# Altium schematic symbol library IC. MCU.SchLib: 20 symbols
Pins are listed as number, name and electrical type; pins without a type are passive.

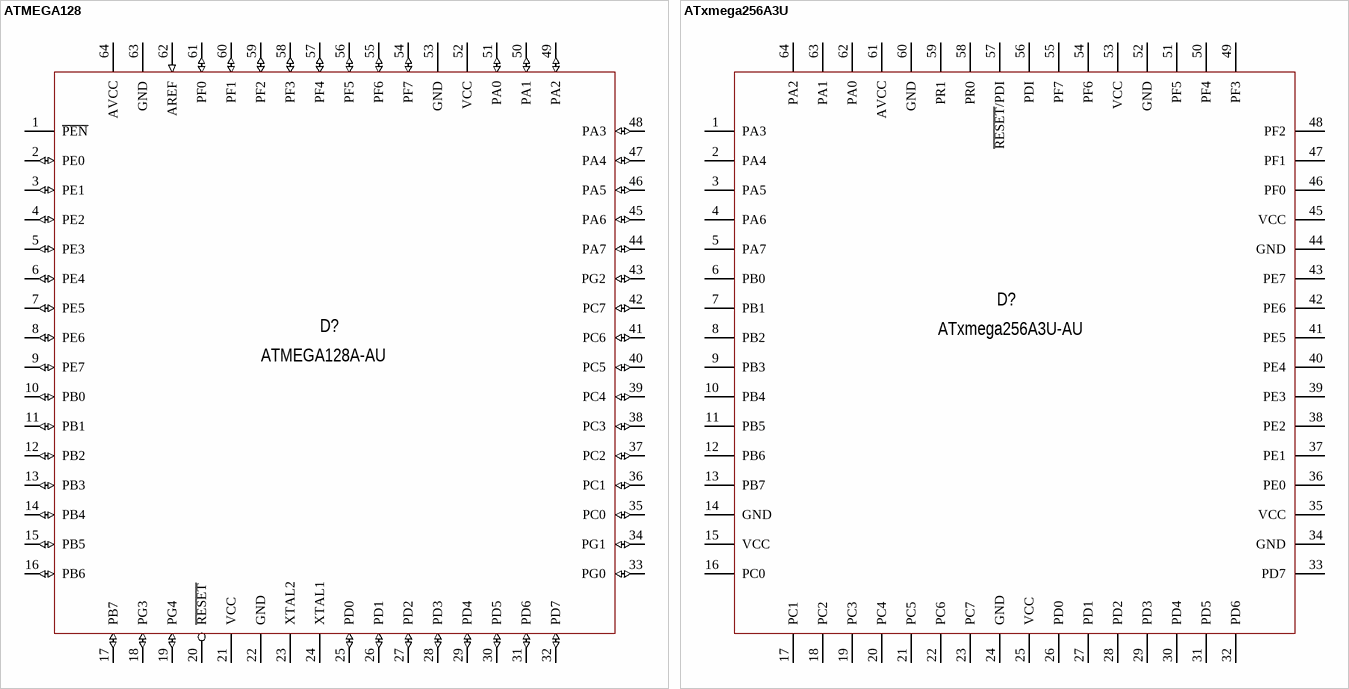
[diagram p0: symbols ATMEGA128 to ATxmega256A3U]

## ATMEGA128
designator D?  PartNumber: ATMEGA128A-AU
ATMEGA; Manufacturer: MICROCHIP; ValueManufacturerPartNumber: IC microcontroller, 8-Bit, RISC, 16MHz, 128KB, 4KB, 4,5...5,5V, -40...+85°C, TQFP64; Supply: 4,5...5,5V; Speed: 16MHz; CoreSize: 8-Bit; MemoryROM: 128KB; MemoryRAM: 4KB; CoreProcessor: RISC; HelpURL: https://www.platan.ru/cgi-bin/qwery.pl/id=324198127; Package: TQFP64; ComponentType: IC microcontroller; Temperature: -40...+85°C
footprint 64-TQFP (pitch 0.8 mm)
pins: 1 ~{PEN}, 2 PE0 (io), 3 PE1 (io), 4 PE2 (io), 5 PE3 (io), 6 PE4 (io), 7 PE5 (io), 8 PE6 (io), 9 PE7 (io), 10 PB0 (io), 11 PB1 (io), 12 PB2 (io), 13 PB3 (io), 14 PB4 (io), 15 PB5 (io), 16 PB6 (io), 17 PB7 (io), 18 PG3 (io), 19 PG4 (io), 20 ~{RESET}, 21 VCC (power), 22 GND (power), 23 XTAL2, 24 XTAL1, 25 PD0 (io), 26 PD1 (io), 27 PD2 (io), 28 PD3 (io), 29 PD4 (io), 30 PD5 (io), 31 PD6 (io), 32 PD7 (io), 33 PG0 (io), 34 PG1 (io), 35 PC0 (io), 36 PC1 (io), 37 PC2 (io), 38 PC3 (io), 39 PC4 (io), 40 PC5 (io), 41 PC6 (io), 42 PC7 (io), 43 PG2 (io), 44 PA7 (io), 45 PA6 (io), 46 PA5 (io), 47 PA4 (io), 48 PA3 (io), 49 PA2 (io), 50 PA1 (io), 51 PA0 (io), 52 VCC (power), 53 GND (power), 54 PF7 (io), 55 PF6 (io), 56 PF5 (io), 57 PF4 (io), 58 PF3 (io), 59 PF2 (io), 60 PF1 (io), 61 PF0 (io), 62 AREF (in), 63 GND (power), 64 AVCC (power)

## ATxmega256A3U
designator D?  PartNumber: ATxmega256A3U-AU
ATxmegaA3; Manufacturer: MICROCHIP; ValueManufacturerPartNumber: IC microcontroller, 8-Bit, RISC, 32MHz, 256KB, 16KB, 1,6 ... 3,6V, -40...+85°C, TQFP64; Supply: 1,6 ... 3,6V; Speed: 32MHz; CoreSize: 8-Bit; MemoryROM: 256KB; MemoryRAM: 16KB; CoreProcessor: RISC; HelpURL: https://www.platan.ru/cgi-bin/qwery.pl/id=324198127; Package: TQFP64; ComponentType: IC microcontroller; Temperature: -40...+85°C
footprint 64-TQFP (pitch 0.8 mm)
pins: 1 PA3, 2 PA4, 3 PA5, 4 PA6, 5 PA7, 6 PB0, 7 PB1, 8 PB2, 9 PB3, 10 PB4, 11 PB5, 12 PB6, 13 PB7, 14 GND, 15 VCC, 16 PC0, 17 PC1, 18 PC2, 19 PC3, 20 PC4, 21 PC5, 22 PC6, 23 PC7, 24 GND, 25 VCC, 26 PD0, 27 PD1, 28 PD2, 29 PD3, 30 PD4, 31 PD5, 32 PD6, 33 PD7, 34 GND, 35 VCC, 36 PE0, 37 PE1, 38 PE2, 39 PE3, 40 PE4, 41 PE5, 42 PE6, 43 PE7, 44 GND, 45 VCC, 46 PF0, 47 PF1, 48 PF2, 49 PF3, 50 PF4, 51 PF5, 52 GND, 53 VCC, 54 PF6, 55 PF7, 56 PDI, 57 ~{RESET}/PDI, 58 PR0, 59 PR1, 60 GND, 61 AVCC, 62 PA0, 63 PA1, 64 PA2

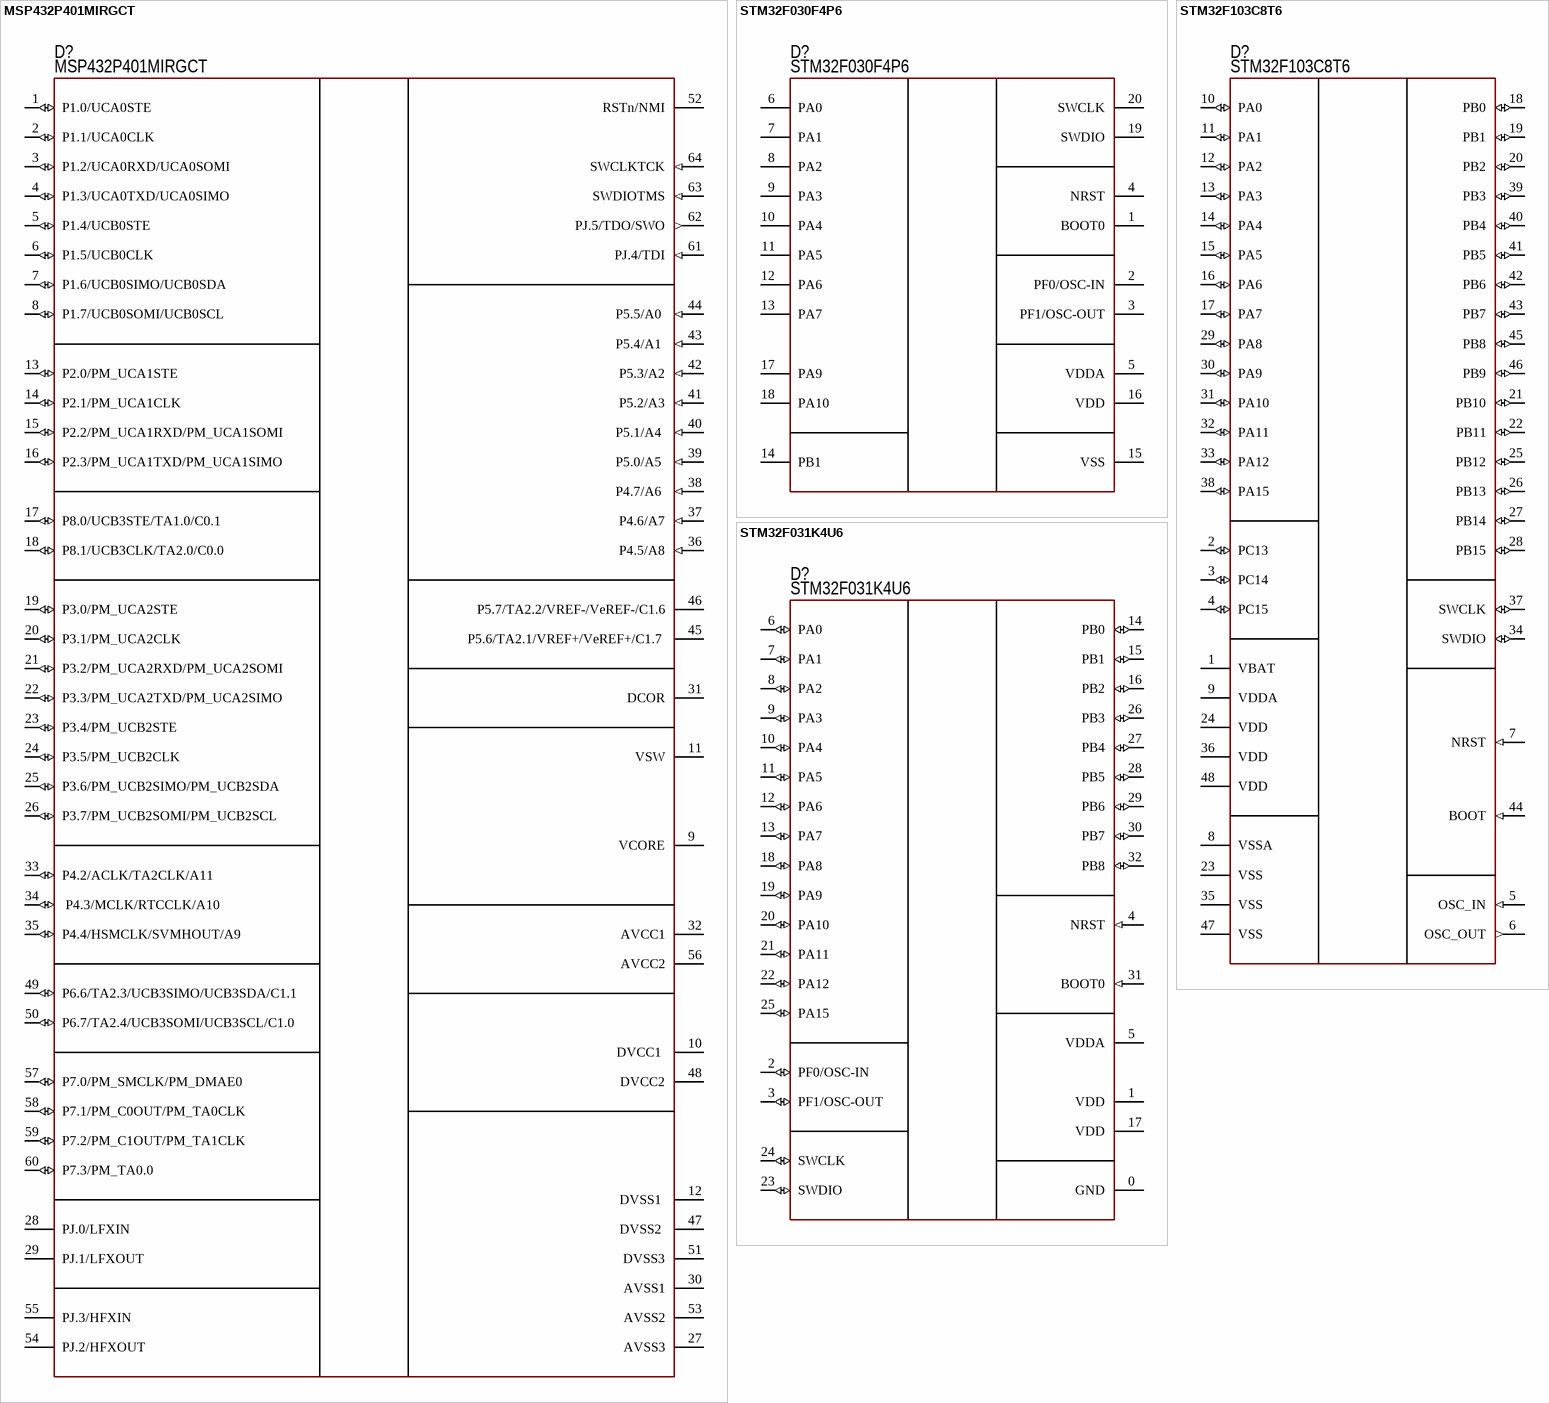
[diagram p1: symbols MSP432P401MIRGCT to STM32F103C8T6]

## MSP432P401MIRGCT
designator D?  PartNumber: MSP432P401MIRGCT
Cortex-M4F; Manufacturer: STMicroelectronics; ValueManufacturerPartNumber: IC microcontroller, 32-Bit, Cortex-M4F, 48MHz, 128KB, 32KB, 2...3.6V, -40...+85°C, 64-VFQFN; Supply: 2...3.6V; Speed: 48MHz; CoreSize: 32-Bit; MemoryROM: 128KB; MemoryRAM: 32KB; HelpURL: https://www.digikey.com/product-detail/en/texas-instruments/MSP432P401MIRGCT/296-45486-1-ND/6821077; Package: 64-VFQFN; ComponentType: IC microcontroller; Temperature: -40...+85°C; CoreProcessor: Cortex-M4F
footprint 64-QFN (9x9 mm, pitch 0.5 mm, power pad)
pins: 1 P1.0/UCA0STE  (io), 2 P1.1/UCA0CLK  (io), 3 P1.2/UCA0RXD/UCA0SOMI  (io), 4 P1.3/UCA0TXD/UCA0SIMO (io), 5 P1.4/UCB0STE (io), 6 P1.5/UCB0CLK  (io), 7 P1.6/UCB0SIMO/UCB0SDA (io), 8 P1.7/UCB0SOMI/UCB0SCL (io), 9 VCORE (power), 10 DVCC1  (power), 11 VSW (power), 12 DVSS1  (power), 13 P2.0/PM_UCA1STE (io), 14 P2.1/PM_UCA1CLK  (io), 15 P2.2/PM_UCA1RXD/PM_UCA1SOMI  (io), 16 P2.3/PM_UCA1TXD/PM_UCA1SIMO (io), 17 P8.0/UCB3STE/TA1.0/C0.1 (io), 18 P8.1/UCB3CLK/TA2.0/C0.0 (io), 19 P3.0/PM_UCA2STE (io), 20 P3.1/PM_UCA2CLK (io), 21 P3.2/PM_UCA2RXD/PM_UCA2SOMI (io), 22 P3.3/PM_UCA2TXD/PM_UCA2SIMO (io), 23 P3.4/PM_UCB2STE (io), 24 P3.5/PM_UCB2CLK (io), 25 P3.6/PM_UCB2SIMO/PM_UCB2SDA (io), 26 P3.7/PM_UCB2SOMI/PM_UCB2SCL (io), 27 AVSS3 (power), 28 PJ.0/LFXIN, 29 PJ.1/LFXOUT, 30 AVSS1 (power), 31 DCOR (power), 32 AVCC1 (power), 33 P4.2/ACLK/TA2CLK/A11  (io), 34  P4.3/MCLK/RTCCLK/A10  (io), 35 P4.4/HSMCLK/SVMHOUT/A9 (io), 36 P4.5/A8 (in), 37 P4.6/A7 (in), 38 P4.7/A6  (in), 39 P5.0/A5  (in), 40  P5.1/A4  (in), 41 P5.2/A3 (in), 42 P5.3/A2 (in), 43  P5.4/A1  (in), 44 P5.5/A0  (in), 45 P5.6/TA2.1/VREF+/VeREF+/C1.7  (power), 46 P5.7/TA2.2/VREF-/VeREF-/C1.6 (power), 47 DVSS2  (power), 48 DVCC2 (power), 49 P6.6/TA2.3/UCB3SIMO/UCB3SDA/C1.1 (io), 50 P6.7/TA2.4/UCB3SOMI/UCB3SCL/C1.0 (io), 51 DVSS3 (power), 52 RSTn/NMI, 53 AVSS2 (power), 54 PJ.2/HFXOUT, 55 PJ.3/HFXIN, 56 AVCC2 (power), 57 P7.0/PM_SMCLK/PM_DMAE0 (io), 58 P7.1/PM_C0OUT/PM_TA0CLK (io), 59 P7.2/PM_C1OUT/PM_TA1CLK (io), 60 P7.3/PM_TA0.0 (io), 61 PJ.4/TDI (in), 62 PJ.5/TDO/SWO (out), 63 SWDIOTMS (in), 64 SWCLKTCK (in)

## STM32F030F4P6
designator D?  PartNumber: STM32F030F4P6
Cortex-M0; Manufacturer: STMicroelectronics; ValueManufacturerPartNumber: IC microcontroller, 32-Bit, Cortex-M0, 48MHz, 16KB, 4KB, 2.4...3.6V, -40...+85°C, 20-TSSOP; Supply: 2.4...3.6V; Speed: 48MHz; CoreSize: 32-Bit; MemoryROM: 16KB; MemoryRAM: 4KB; HelpURL: https://www.digikey.com/product-detail/en/stmicroelectronics/STM32F030F4P6TR/497-17333-1-ND/7650385; Package: 20-TSSOP; ComponentType: IC microcontroller; Temperature: -40...+85°C; CoreProcessor: Cortex-M0
footprint 20-TSSOP (pitch 0.65 mm)
pins: 1 BOOT0, 2 PF0/OSC-IN, 3 PF1/OSC-OUT, 4 NRST, 5 VDDA, 6 PA0, 7 PA1, 8 PA2, 9 PA3, 10 PA4, 11 PA5, 12 PA6, 13 PA7, 14 PB1, 15 VSS, 16 VDD, 17 PA9, 18 PA10, 19 SWDIO, 20 SWCLK

## STM32F031K4U6
designator D?  PartNumber: STM32F031K4U6
Cortex-M0; Manufacturer: STMicroelectronics; ValueManufacturerPartNumber: IC microcontroller, 32-Bit, Cortex-M0, 48MHz, 16KB, 4KB, 2...3.6V, -40...+85°C, 32-UFQFPN; Supply: 2...3.6V; Speed: 48MHz; CoreSize: 32-Bit; MemoryROM: 16KB; MemoryRAM: 4KB; HelpURL: https://www.digikey.com/product-detail/en/stmicroelectronics/STM32F031K4U6/497-13621-ND/3947373; Package: 32-UFQFPN; ComponentType: IC microcontroller; Temperature: -40...+85°C; CoreProcessor: Cortex-M0
footprint 32-QFN (5x5 mm, pitch 0.5 mm, power pad)
pins: 0 GND, 1 VDD, 2 PF0/OSC-IN (io), 3 PF1/OSC-OUT (io), 4 NRST (in), 5 VDDA, 6 PA0 (io), 7 PA1 (io), 8 PA2 (io), 9 PA3 (io), 10 PA4 (io), 11 PA5 (io), 12 PA6 (io), 13 PA7 (io), 14 PB0 (io), 15 PB1 (io), 16 PB2 (io), 17 VDD, 18 PA8 (io), 19 PA9 (io), 20 PA10 (io), 21 PA11 (io), 22 PA12 (io), 23 SWDIO (io), 24 SWCLK (io), 25 PA15 (io), 26 PB3 (io), 27 PB4 (io), 28 PB5 (io), 29 PB6 (io), 30 PB7 (io), 31 BOOT0 (in), 32 PB8 (io)

## STM32F103C8T6
designator D?  PartNumber: STM32F103C8T6
Cortex-M3; Manufacturer: STMicroelectronics; ValueManufacturerPartNumber: IC microcontroller, 32-Bit, Cortex-M3, 72MHz, 64KB, 20KB, 2...3.6V, -40...+85°C, 48-LQFP; Supply: 2...3.6V; Speed: 72MHz; CoreSize: 32-Bit; MemoryROM: 64KB; MemoryRAM: 20KB; HelpURL: https://www.digikey.com/product-detail/en/stmicroelectronics/STM32F103C8T6TR/497-17666-1-ND/7804402; Package: 48-LQFP; ComponentType: IC microcontroller; Temperature: -40...+85°C; CoreProcessor: Cortex-M3
footprint 48-LQFP (QFP, 48-Leads, Body 7x7mm, Pitch 0.5mm, IPC Medium Density)
pins: 1 VBAT (power), 2 PC13 (io), 3 PC14 (io), 4 PC15 (io), 5 OSC_IN (in), 6 OSC_OUT (out), 7 NRST (in), 8 VSSA (power), 9 VDDA (power), 10 PA0 (io), 11 PA1 (io), 12 PA2 (io), 13 PA3 (io), 14 PA4 (io), 15 PA5 (io), 16 PA6 (io), 17 PA7 (io), 18 PB0 (io), 19 PB1 (io), 20 PB2 (io), 21 PB10 (io), 22 PB11 (io), 23 VSS (power), 24 VDD (power), 25 PB12 (io), 26 PB13 (io), 27 PB14 (io), 28 PB15 (io), 29 PA8 (io), 30 PA9 (io), 31 PA10 (io), 32 PA11 (io), 33 PA12 (io), 34 SWDIO (io), 35 VSS (power), 36 VDD (power), 37 SWCLK (io), 38 PA15 (io), 39 PB3 (io), 40 PB4 (io), 41 PB5 (io), 42 PB6 (io), 43 PB7 (io), 44 BOOT (in), 45 PB8 (io), 46 PB9 (io), 47 VSS (power), 48 VDD (power)

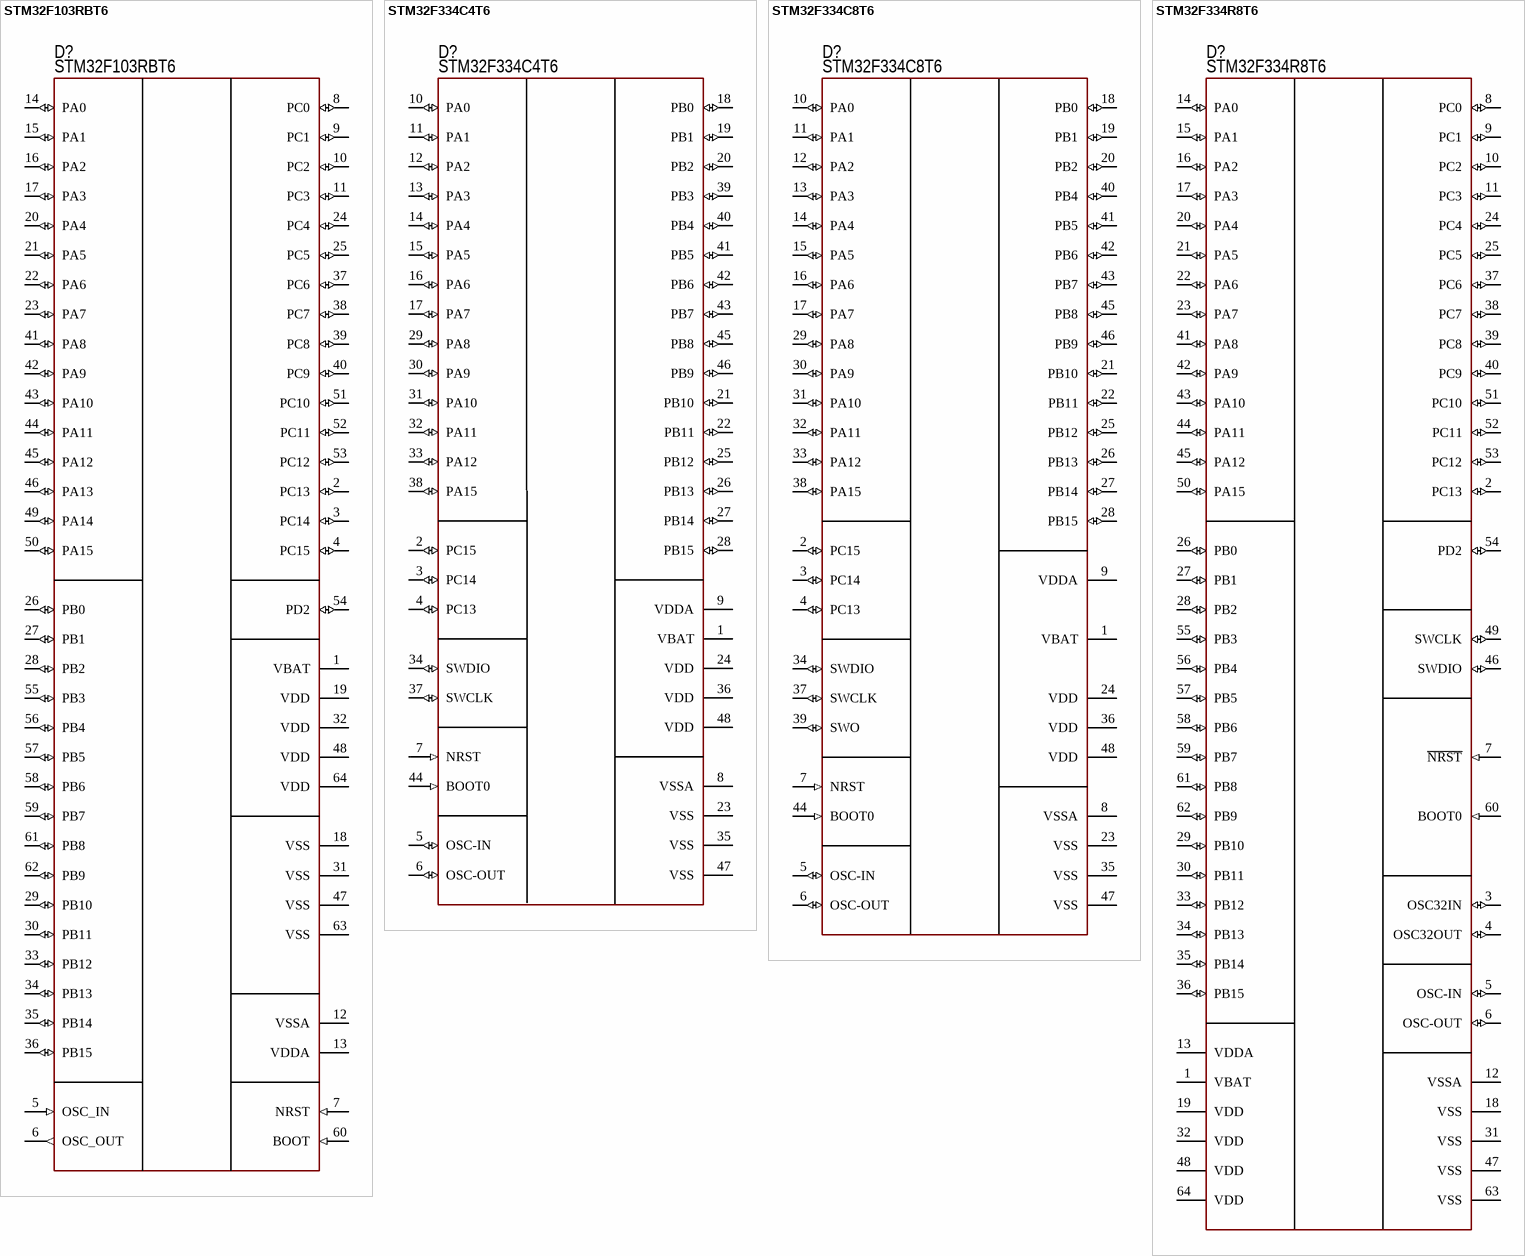
[diagram p2: symbols STM32F103RBT6 to STM32F334R8T6]

## STM32F103RBT6
designator D?  PartNumber: STM32F103RBT6
Cortex-M3; Manufacturer: STMicroelectronics; ValueManufacturerPartNumber: IC microcontroller, 32-Bit, Cortex-M3, 72MHz, 128KB, 20KB, 2...3.6V, -40...+85°C, 64-LQFP; Supply: 2...3.6V; Speed: 72MHz; CoreSize: 32-Bit; MemoryROM: 128KB; MemoryRAM: 20KB; HelpURL: https://www.digikey.com/product-detail/en/stmicroelectronics/STM32F103RBT6/497-6066-ND/1646341; Package: 64-LQFP; ComponentType: IC microcontroller; Temperature: -40...+85°C; CoreProcessor: Cortex-M3
footprint 64-LQFP (Thin QFP, 64-Leads, Body 10x10mm, Pitch 0.5mm, IPC Medium Density)
pins: 1 VBAT (power), 2 PC13 (io), 3 PC14 (io), 4 PC15 (io), 5 OSC_IN (in), 6 OSC_OUT (out), 7 NRST (in), 8 PC0 (io), 9 PC1 (io), 10 PC2 (io), 11 PC3 (io), 12 VSSA (power), 13 VDDA (power), 14 PA0 (io), 15 PA1 (io), 16 PA2 (io), 17 PA3 (io), 18 VSS (power), 19 VDD (power), 20 PA4 (io), 21 PA5 (io), 22 PA6 (io), 23 PA7 (io), 24 PC4 (io), 25 PC5 (io), 26 PB0 (io), 27 PB1 (io), 28 PB2 (io), 29 PB10 (io), 30 PB11 (io), 31 VSS (power), 32 VDD (power), 33 PB12 (io), 34 PB13 (io), 35 PB14 (io), 36 PB15 (io), 37 PC6 (io), 38 PC7 (io), 39 PC8 (io), 40 PC9 (io), 41 PA8 (io), 42 PA9 (io), 43 PA10 (io), 44 PA11 (io), 45 PA12 (io), 46 PA13 (io), 47 VSS (power), 48 VDD (power), 49 PA14 (io), 50 PA15 (io), 51 PC10 (io), 52 PC11 (io), 53 PC12 (io), 54 PD2 (io), 55 PB3 (io), 56 PB4 (io), 57 PB5 (io), 58 PB6 (io), 59 PB7 (io), 60 BOOT (in), 61 PB8 (io), 62 PB9 (io), 63 VSS (power), 64 VDD (power)

## STM32F334C4T6
designator D?  PartNumber: STM32F334C4T6
Cortex-M4; Manufacturer: STMicroelectronics; ValueManufacturerPartNumber: IC microcontroller, 32-Bit, Cortex-M4, 72MHz, 16KB, 12KB, 2...3.6V, -40...+85°C, 48-LQFP; Supply: 2...3.6V; Speed: 72MHz; CoreSize: 32-Bit; MemoryROM: 16KB; MemoryRAM: 12KB; HelpURL: https://www.digikey.com/products/en?keywords=STM32F334C4T6; Package: 48-LQFP; ComponentType: IC microcontroller; Temperature: -40...+85°C; CoreProcessor: Cortex-M4
footprint 48-LQFP (QFP, 48-Leads, Body 7x7mm, Pitch 0.5mm, IPC Medium Density)
pins: 1 VBAT, 2 PC15 (io), 3 PC14 (io), 4 PC13 (io), 5 OSC-IN (io), 6 OSC-OUT (io), 7 NRST (in), 8 VSSA, 9 VDDA, 10 PA0 (io), 11 PA1 (io), 12 PA2 (io), 13 PA3 (io), 14 PA4 (io), 15 PA5 (io), 16 PA6 (io), 17 PA7 (io), 18 PB0 (io), 19 PB1 (io), 20 PB2 (io), 21 PB10 (io), 22 PB11 (io), 23 VSS, 24 VDD, 25 PB12 (io), 26 PB13 (io), 27 PB14 (io), 28 PB15 (io), 29 PA8 (io), 30 PA9 (io), 31 PA10 (io), 32 PA11 (io), 33 PA12 (io), 34 SWDIO (io), 35 VSS, 36 VDD, 37 SWCLK (io), 38 PA15 (io), 39 PB3 (io), 40 PB4 (io), 41 PB5 (io), 42 PB6 (io), 43 PB7 (io), 44 BOOT0 (in), 45 PB8 (io), 46 PB9 (io), 47 VSS, 48 VDD

## STM32F334C8T6
designator D?  PartNumber: STM32F334C8T6
Cortex-M4; Manufacturer: STMicroelectronics; ValueManufacturerPartNumber: IC microcontroller, 32-Bit, Cortex-M4, 72MHz, 64KB, 12KB, 2...3.6V, -40...+85°C, 48-LQFP; Supply: 2...3.6V; Speed: 72MHz; CoreSize: 32-Bit; MemoryROM: 64KB; MemoryRAM: 12KB; HelpURL: https://www.digikey.com/products/en?keywords=STM32F334C8T6; Package: 48-LQFP; ComponentType: IC microcontroller; Temperature: -40...+85°C; CoreProcessor: Cortex-M4
footprint 48-LQFP (QFP, 48-Leads, Body 7x7mm, Pitch 0.5mm, IPC Medium Density)
pins: 1 VBAT, 2 PC15 (io), 3 PC14 (io), 4 PC13 (io), 5 OSC-IN (io), 6 OSC-OUT (io), 7 NRST (in), 8 VSSA, 9 VDDA, 10 PA0 (io), 11 PA1 (io), 12 PA2 (io), 13 PA3 (io), 14 PA4 (io), 15 PA5 (io), 16 PA6 (io), 17 PA7 (io), 18 PB0 (io), 19 PB1 (io), 20 PB2 (io), 21 PB10 (io), 22 PB11 (io), 23 VSS, 24 VDD, 25 PB12 (io), 26 PB13 (io), 27 PB14 (io), 28 PB15 (io), 29 PA8 (io), 30 PA9 (io), 31 PA10 (io), 32 PA11 (io), 33 PA12 (io), 34 SWDIO (io), 35 VSS, 36 VDD, 37 SWCLK (io), 38 PA15 (io), 39 SWO (io), 40 PB4 (io), 41 PB5 (io), 42 PB6 (io), 43 PB7 (io), 44 BOOT0 (in), 45 PB8 (io), 46 PB9 (io), 47 VSS, 48 VDD

## STM32F334R8T6
designator D?  PartNumber: STM32F334R8T6
Cortex-M4; Manufacturer: STMicroelectronics; ValueManufacturerPartNumber: IC microcontroller, 32-Bit, Cortex-M4, 72MHz, 64KB, 12KB, 2...3.6V, -40...+85°C, 64-LQFP; Supply: 2...3.6V; Speed: 72MHz; CoreSize: 32-Bit; MemoryROM: 64KB; MemoryRAM: 12KB; HelpURL: https://www.digikey.com/product-detail/en/stmicroelectronics/STM32F334R8T6/497-14955-ND/4989177; Package: 64-LQFP; ComponentType: IC microcontroller; Temperature: -40...+85°C; CoreProcessor: Cortex-M4
footprint 64-LQFP (Thin QFP, 64-Leads, Body 10x10mm, Pitch 0.5mm, IPC Medium Density)
pins: 1 VBAT (power), 2 PC13 (io), 3 OSC32IN (io), 4 OSC32OUT (io), 5 OSC-IN (io), 6 OSC-OUT (io), 7 ~{NRST} (in), 8 PC0 (io), 9 PC1 (io), 10 PC2 (io), 11 PC3 (io), 12 VSSA (power), 13 VDDA (power), 14 PA0 (io), 15 PA1 (io), 16 PA2 (io), 17 PA3 (io), 18 VSS (power), 19 VDD (power), 20 PA4 (io), 21 PA5 (io), 22 PA6 (io), 23 PA7 (io), 24 PC4 (io), 25 PC5 (io), 26 PB0 (io), 27 PB1 (io), 28 PB2 (io), 29 PB10 (io), 30 PB11 (io), 31 VSS (power), 32 VDD (power), 33 PB12 (io), 34 PB13 (io), 35 PB14 (io), 36 PB15 (io), 37 PC6 (io), 38 PC7 (io), 39 PC8 (io), 40 PC9 (io), 41 PA8 (io), 42 PA9 (io), 43 PA10 (io), 44 PA11 (io), 45 PA12 (io), 46 SWDIO (io), 47 VSS (power), 48 VDD (power), 49 SWCLK (io), 50 PA15 (io), 51 PC10 (io), 52 PC11 (io), 53 PC12 (io), 54 PD2 (io), 55 PB3 (io), 56 PB4 (io), 57 PB5 (io), 58 PB6 (io), 59 PB7 (io), 60 BOOT0 (in), 61 PB8 (io), 62 PB9 (io), 63 VSS (power), 64 VDD (power)

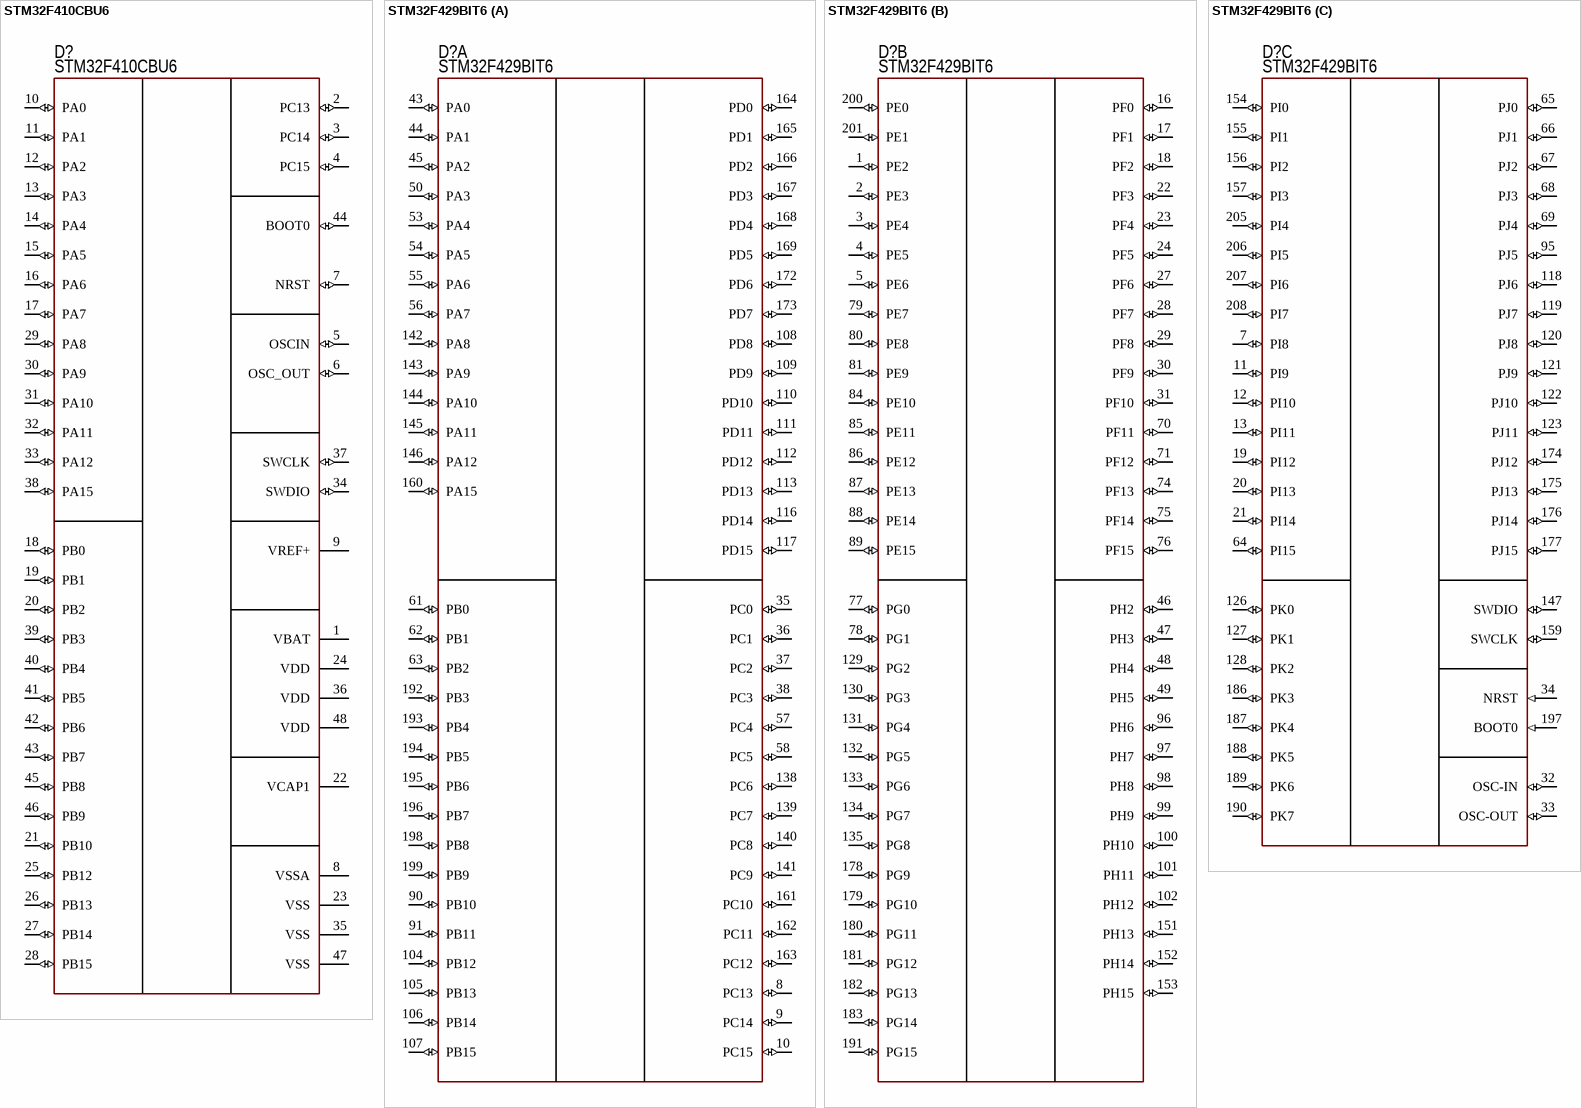
[diagram p3: symbols STM32F410CBU6 to STM32F429BIT6]

## STM32F410CBU6
designator D?  PartNumber: STM32F410CBU6
Cortex-M4; Manufacturer: STMicroelectronics; ValueManufacturerPartNumber: IC microcontroller, 32-Bit, Cortex-M4, 100MHz, 128KB, 32KB, 1.7...3.6V, -40...+85°C, 48-UFQFPN; Supply: 1.7...3.6V; Speed: 100MHz; CoreSize: 32-Bit; MemoryROM: 128KB; MemoryRAM: 32KB; HelpURL: https://www.digikey.com/products/en?keywords=STM32F410CBU6; Package: 48-UFQFPN; ComponentType: IC microcontroller; Temperature: -40...+85°C; CoreProcessor: Cortex-M4
footprint 48-QFN (7x7) (7x7 mm, pitch 0.5 mm, power pad)
pins: 1 VBAT (power), 2 PC13 (io), 3 PC14 (io), 4 PC15 (io), 5 OSCIN (io), 6 OSC_OUT (io), 7 NRST (io), 8 VSSA (power), 9 VREF+ (power), 10 PA0 (io), 11 PA1 (io), 12 PA2 (io), 13 PA3 (io), 14 PA4 (io), 15 PA5 (io), 16 PA6 (io), 17 PA7 (io), 18 PB0 (io), 19 PB1 (io), 20 PB2 (io), 21 PB10 (io), 22 VCAP1 (power), 23 VSS (power), 24 VDD (power), 25 PB12 (io), 26 PB13 (io), 27 PB14 (io), 28 PB15 (io), 29 PA8 (io), 30 PA9 (io), 31 PA10 (io), 32 PA11 (io), 33 PA12 (io), 34 SWDIO (io), 35 VSS (power), 36 VDD (power), 37 SWCLK (io), 38 PA15 (io), 39 PB3 (io), 40 PB4 (io), 41 PB5 (io), 42 PB6 (io), 43 PB7 (io), 44 BOOT0 (io), 45 PB8 (io), 46 PB9 (io), 47 VSS (power), 48 VDD (power)

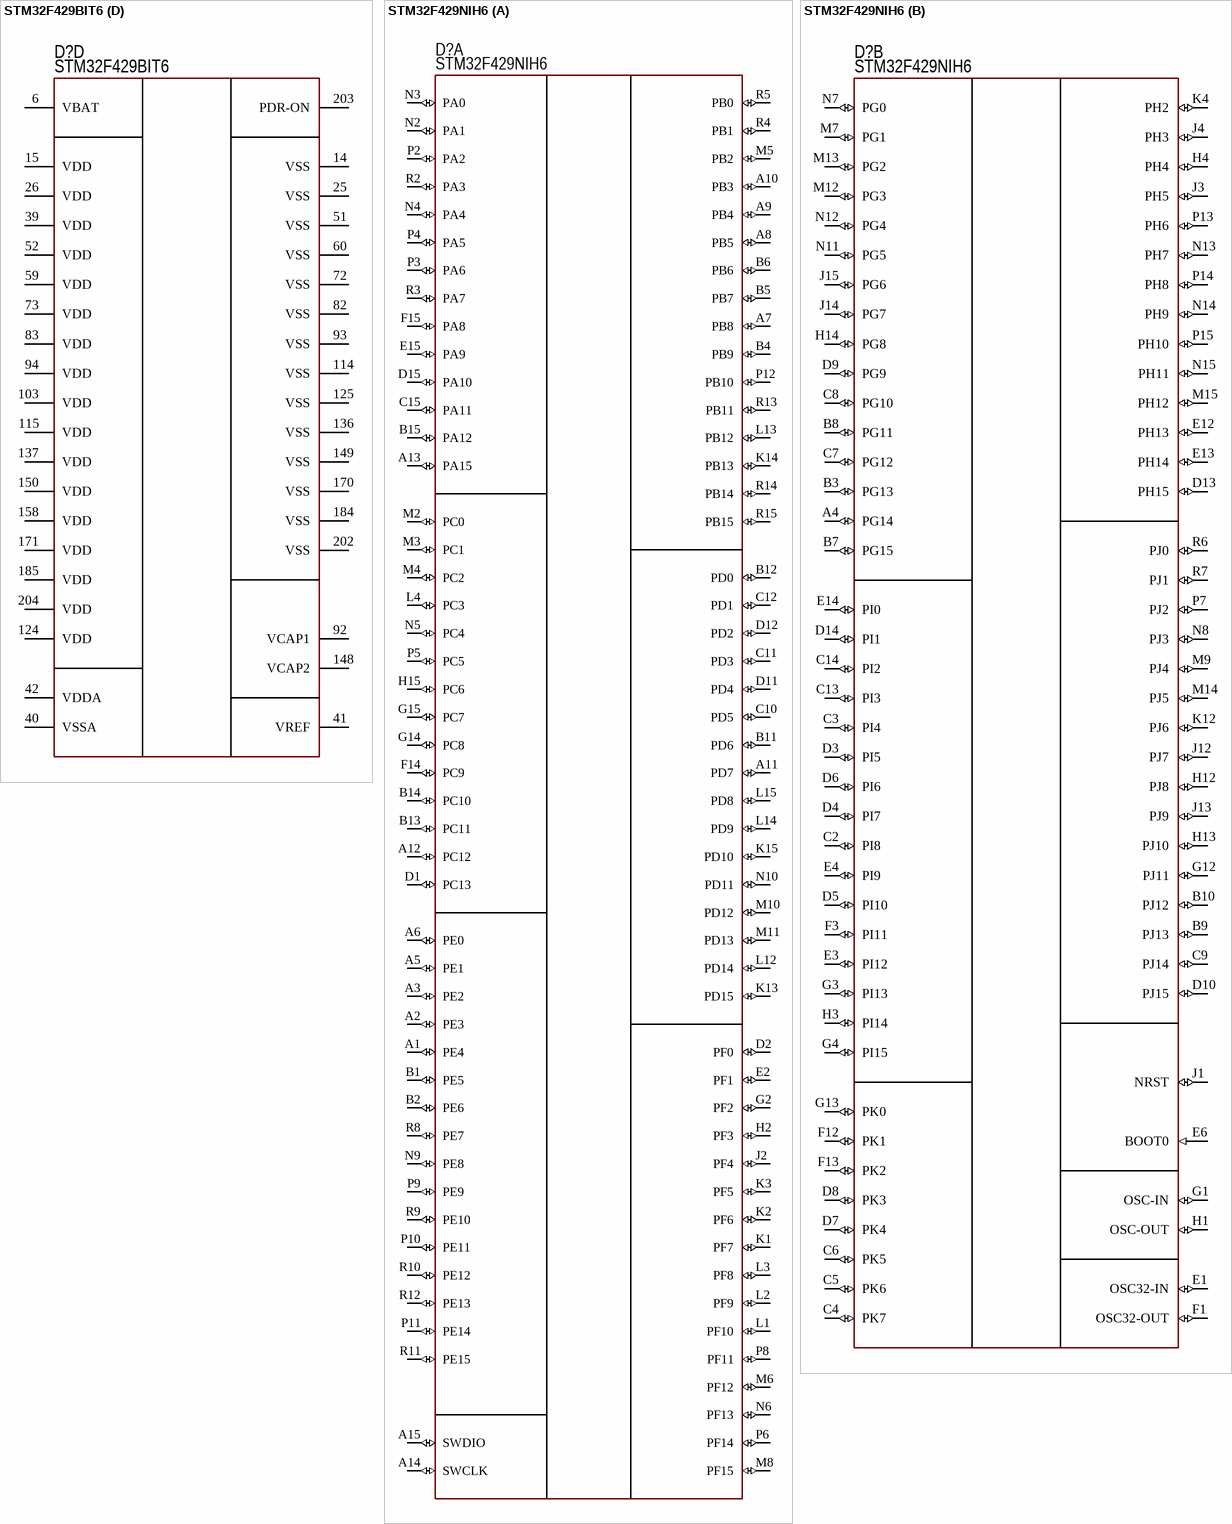
[diagram p4: symbols STM32F429BIT6 to STM32F429NIH6]

## STM32F429BIT6
designator D?  PartNumber: STM32F429BIT6
Cortex-M4; Manufacturer: STMicroelectronics; ValueManufacturerPartNumber: IC microcontroller, 32-Bit, Cortex-M4, 180MHz, 2048KB, 256KB, 1.7...3.6V, -40...+85°C, 208-LQFP; Supply: 1.7...3.6V; Speed: 180MHz; CoreSize: 32-Bit; MemoryROM: 2048KB; MemoryRAM: 256KB; HelpURL: https://www.digikey.com/products/en?keywords=STM32F429BIT6; Package: 208-LQFP; ComponentType: IC microcontroller; Temperature: -40...+85°C; CoreProcessor: Cortex-M4
footprint 208-LQFP (pitch 0.5 mm)
part A pins: 8 PC13 (io), 9 PC14 (io), 10 PC15 (io), 35 PC0 (io), 36 PC1 (io), 37 PC2 (io), 38 PC3 (io), 43 PA0 (io), 44 PA1 (io), 45 PA2 (io), 50 PA3 (io), 53 PA4 (io), 54 PA5 (io), 55 PA6 (io), 56 PA7 (io), 57 PC4 (io), 58 PC5 (io), 61 PB0 (io), 62 PB1 (io), 63 PB2 (io), 90 PB10 (io), 91 PB11 (io), 104 PB12 (io), 105 PB13 (io), 106 PB14 (io), 107 PB15 (io), 108 PD8 (io), 109 PD9 (io), 110 PD10 (io), 111 PD11 (io), 112 PD12 (io), 113 PD13 (io), 116 PD14 (io), 117 PD15 (io), 138 PC6 (io), 139 PC7 (io), 140 PC8 (io), 141 PC9 (io), 142 PA8 (io), 143 PA9 (io), 144 PA10 (io), 145 PA11 (io), 146 PA12 (io), 160 PA15 (io), 161 PC10 (io), 162 PC11 (io), 163 PC12 (io), 164 PD0 (io), 165 PD1 (io), 166 PD2 (io), 167 PD3 (io), 168 PD4 (io), 169 PD5 (io), 172 PD6 (io), 173 PD7 (io), 192 PB3 (io), 193 PB4 (io), 194 PB5 (io), 195 PB6 (io), 196 PB7 (io), 198 PB8 (io), 199 PB9 (io)
part B pins: 1 PE2 (io), 2 PE3 (io), 3 PE4 (io), 4 PE5 (io), 5 PE6 (io), 16 PF0 (io), 17 PF1 (io), 18 PF2 (io), 22 PF3 (io), 23 PF4 (io), 24 PF5 (io), 27 PF6 (io), 28 PF7 (io), 29 PF8 (io), 30 PF9 (io), 31 PF10 (io), 46 PH2 (io), 47 PH3 (io), 48 PH4 (io), 49 PH5 (io), 70 PF11 (io), 71 PF12 (io), 74 PF13 (io), 75 PF14 (io), 76 PF15 (io), 77 PG0 (io), 78 PG1 (io), 79 PE7 (io), 80 PE8 (io), 81 PE9 (io), 84 PE10 (io), 85 PE11 (io), 86 PE12 (io), 87 PE13 (io), 88 PE14 (io), 89 PE15 (io), 96 PH6 (io), 97 PH7 (io), 98 PH8 (io), 99 PH9 (io), 100 PH10 (io), 101 PH11 (io), 102 PH12 (io), 129 PG2 (io), 130 PG3 (io), 131 PG4 (io), 132 PG5 (io), 133 PG6 (io), 134 PG7 (io), 135 PG8 (io), 151 PH13 (io), 152 PH14 (io), 153 PH15 (io), 178 PG9 (io), 179 PG10 (io), 180 PG11 (io), 181 PG12 (io), 182 PG13 (io), 183 PG14 (io), 191 PG15 (io), 200 PE0 (io), 201 PE1 (io)
part C pins: 7 PI8 (io), 11 PI9 (io), 12 PI10 (io), 13 PI11 (io), 19 PI12 (io), 20 PI13 (io), 21 PI14 (io), 32 OSC-IN (io), 33 OSC-OUT (io), 34 NRST (in), 64 PI15 (io), 65 PJ0 (io), 66 PJ1 (io), 67 PJ2 (io), 68 PJ3 (io), 69 PJ4 (io), 95 PJ5 (io), 118 PJ6 (io), 119 PJ7 (io), 120 PJ8 (io), 121 PJ9 (io), 122 PJ10 (io), 123 PJ11 (io), 126 PK0 (io), 127 PK1 (io), 128 PK2 (io), 147 SWDIO (io), 154 PI0 (io), 155 PI1 (io), 156 PI2 (io), 157 PI3 (io), 159 SWCLK (io), 174 PJ12 (io), 175 PJ13 (io), 176 PJ14 (io), 177 PJ15 (io), 186 PK3 (io), 187 PK4 (io), 188 PK5 (io), 189 PK6 (io), 190 PK7 (io), 197 BOOT0 (in), 205 PI4 (io), 206 PI5 (io), 207 PI6 (io), 208 PI7 (io)
part D pins: 6 VBAT (power), 14 VSS (power), 15 VDD (power), 25 VSS (power), 26 VDD (power), 39 VDD (power), 40 VSSA (power), 41 VREF (power), 42 VDDA (power), 51 VSS (power), 52 VDD (power), 59 VDD (power), 60 VSS (power), 72 VSS (power), 73 VDD (power), 82 VSS (power), 83 VDD (power), 92 VCAP1 (power), 93 VSS (power), 94 VDD (power), 103 VDD (power), 114 VSS (power), 115 VDD (power), 124 VDD (power), 125 VSS (power), 136 VSS (power), 137 VDD (power), 148 VCAP2 (power), 149 VSS (power), 150 VDD (power), 158 VDD (power), 170 VSS (power), 171 VDD (power), 184 VSS (power), 185 VDD (power), 202 VSS (power), 203 PDR-ON (power), 204 VDD (power)

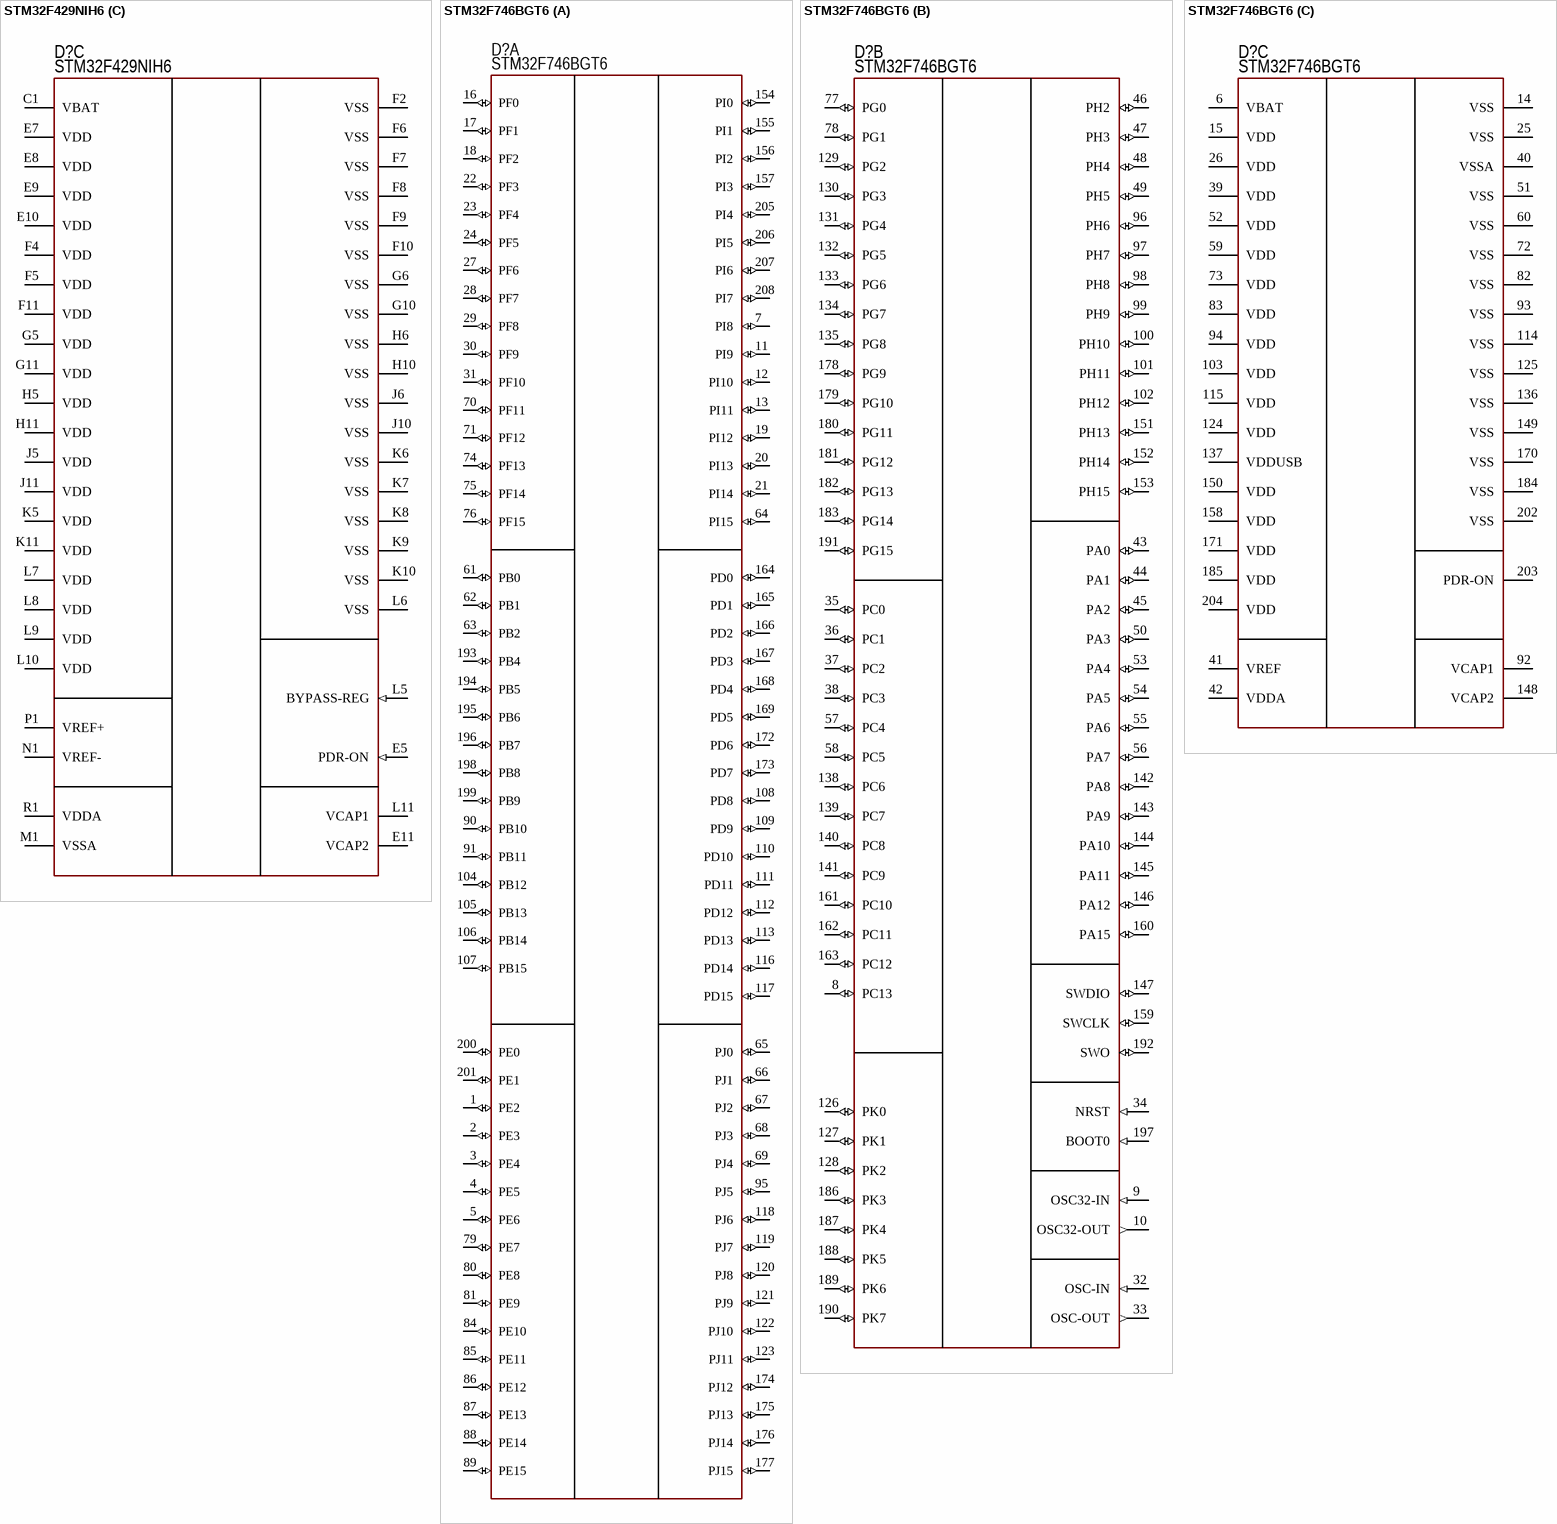
[diagram p5: symbols STM32F429NIH6 to STM32F746BGT6]

## STM32F429NIH6
designator D?  PartNumber: STM32F429NIH6
Cortex-M4; Manufacturer: STMicroelectronics; ValueManufacturerPartNumber: IC microcontroller, 32-Bit, Cortex-M4, 180MHz, 2048KB, 256KB, 1.8...3.6V, -40...+85°C, 216-TFBGA; Supply: 1.8...3.6V; Speed: 180MHz; CoreSize: 32-Bit; MemoryROM: 2048KB; MemoryRAM: 256KB; HelpURL: https://www.digikey.com/product-detail/en/stmicroelectronics/STM32F429NIH6/497-17457-ND/5051345; Package: 216-TFBGA; ComponentType: IC microcontroller; Temperature: -40...+85°C; CoreProcessor: Cortex-M4
footprint 216-TFBGA (pitch 0.8mm)
part A pins: A1 PE4 (io) "PE4/TRACED1,SPI4_NSS,SAI1_FS_A,FMC_A20,DCMI_D4,LCD_B0,EVENTOUT", A2 PE3 (io) "PE3/TRACED0,SAI1_SD_B,FMC_A19,EVENTOUT", A3 PE2 (io) "PE2/TRACECLK,SPI4_SCK,SAI1_MCLK_A,ETH_MII_TXD3,FMC_A23,EVENTOUT", A5 PE1 (io) "PE1/UART8_TX,FMC_NBL1,DCMI_D3,EVENTOUT", A6 PE0 (io) "PE0/TIM4_ETR,UART8_RX,FMC_NBL0,DCMI_D2,EVENTOUT", A7 PB8 (io) "PB8/TIM4_CH3,TIM10_CH1,I2C1_SCL,CAN1_RX,ETH_MII_TXD3,SDIO_D4,DCMI_D6,LCD_B6,EVENTOUT", A8 PB5 (io) "PB5/TIM3_CH2,I2C1_SMBA,SPI1_MOSI,SPI3_MOSI/I2S3_SD,CAN2_RX,OTG_HS_ULPI_D7,ETH_PPS_OUT,FMC_SDCKE1,DCMI_D10,EVENTOUT", A9 PB4 (io) "PB4(NJTRST)/NJTRST,TIM3_CH1,SPI1_MISO,SPI3_MISO,I2S3ext_SD,EVENTOUT", A10 PB3 (io) "PB3(JTDO/TRACESWO)/JTDO/TRACESWO,TIM2_CH2,SPI1_SCK,SPI3_SCK/I2S3_CK,EVENTOUT", A11 PD7 (io) "PD7/USART2_CK,FMC_NE1/FMC_NCE2,EVENTOUT", A12 PC12 (io) "PC12/SPI3_MOSI/I2S3_SD,USART3_CK,UART5_TX,SDIO_CK,DCMI_D9,EVENTOUT", A13 PA15 (io) "PA15(JTDI)/JTDI,TIM2_CH1/TIM2_ETR,SPI1_NSS,SPI3_NSS/I2S3_WS,EVENTOUT", A14 SWCLK (io) "PA14(JTCK-SWCLK)/JTCK-SWCLK/EVENTOUT", A15 SWDIO (io) "PA13(JTMS-SWDIO)/JTMS-SWDIO,EVENTOUT", B1 PE5 (io) "PE5/TRACED2,TIM9_CH1,SPI4_MISO,SAI1_SCK_A,FMC_A21,DCMI_D6,LCD_G0,EVENTOUT", B2 PE6 (io) "PE6/TRACED3,TIM9_CH2,SPI4_MOSI,SAI1_SD_A,FMC_A22,DCMI_D7,LCD_G1,EVENTOUT", B4 PB9 (io) "PB9/TIM4_CH4,TIM11_CH1,I2C1_SDA,SPI2_NSS/I2S2_WS,CAN1_TX,SDIO_D5,DCMI_D7,LCD_B7,EVENTOUT", B5 PB7 (io) "PB7/TIM4_CH2,I2C1_SDA,USART1_RX,FMC_NL,DCMI_VSYNC,EVENTOUT", B6 PB6 (io) "PB6/TIM4_CH1,I2C1_SCL,USART1_TX,CAN2_TX,FMC_SDNE1,DCMI_D5,EVENTOUT", B11 PD6 (io) "PD6/SPI3_MOSI/I2S3_SD,SAI1_SD_A,USART2_RX,FMC_NWAIT,DCMI_D10,LCD_B2,EVENTOUT", B12 PD0 (io) "PD0/CAN1_RX,FMC_D2,EVENTOUT", B13 PC11 (io) "PC11/I2S3ext_SD,SPI3_MISO,USART3_RX,UART4_RX,SDIO_D3,DCMI_D4,EVENTOUT", B14 PC10 (io) "PC10/SPI3_SCK/I2S3_CK,USART3_TX,UART4_TX,SDIO_D2,DCMI_D8,LCD_R2,EVENTOUT", B15 PA12 (io) "PA12/TIM1_ETR,USART1_RTS,CAN1_TX,LCD_R5,EVENTOUT/OTG_FS_DP", C10 PD5 (io) "PD5/USART2_TX,FMC_NWE,EVENTOUT", C11 PD3 (io) "PD3/SPI2_SCK/I2S2_CK,USART2_CTS,FMC_CLK,DCMI_D5,LCD_G7,EVENTOUT", C12 PD1 (io) "PD1/CAN1_TX,FMC_D3,EVENTOUT", C15 PA11 (io) "PA11/TIM1_CH4,USART1_CTS,CAN1_RX,LCD_R4,EVENTOUT/OTG_FS_DM", D1 PC13 (io) "PC13/EVENTOUT/TAMP_1", D2 PF0 (io) "PF0/I2C2_SDA,FMC_A0,EVENTOUT", D11 PD4 (io) "PD4/USART2_RTS,FMC_NOE,EVENTOUT", D12 PD2 (io) "PD2/TIM3_ETR,UART5_RX,SDIO_CMD,DCMI_D11,EVENTOUT", D15 PA10 (io) "PA10/TIM1_CH3,USART1_RX,OTG_FS_ID,DCMI_D1,EVENTOUT", E2 PF1 (io) "PF1/I2C2_SCL,FMC_A1,EVENTOUT", E15 PA9 (io) "PA9/TIM1_CH2,I2C3_SMBA,USART1_TX,DCMI_D0,EVENTOUT/OTG_FS_VBUS", F14 PC9 (io) "PC9/MCO2,TIM3_CH4,TIM8_CH4,I2C3_SDA,I2S_CKIN,SDIO_D1,DCMI_D3,EVENTOUT", F15 PA8 (io) "PA8/MCO1,TIM1_CH1,I2C3_SCL,USART1_CK,OTG_FS_SOF,LCD_R6,EVENTOUT", G2 PF2 (io) "PF2/I2C2_SMBA,FMC_A2,EVENTOUT", G14 PC8 (io) "PC8/TIM3_CH3,TIM8_CH3,USART6_CK,SDIO_D0,DCMI_D2,EVENTOUT", G15 PC7 (io) "PC7/TIM3_CH2,TIM8_CH2,I2S3_MCK,USART6_RX,SDIO_D7,DCMI_D1,LCD_G6,EVENTOUT", H2 PF3 (io) "PF3/FMC_A3,EVENTOUT/ADC3_IN9", H15 PC6 (io) "PC6/TIM3_CH1,TIM8_CH1,I2S2_MCK,USART6_TX,SDIO_D6,DCMI_D0,LCD_HSYNC,EVENTOUT", J2 PF4 (io) "PF4/FMC_A4,EVENTOUT/ADC3_IN14", K1 PF7 (io) "PF7/TIM11_CH1,SPI5_SCK,SAI1_MCLK_B,UART7_TX,FMC_NREG,EVENTOUT/ADC3_IN5", K2 PF6 (io) "PF6/TIM10_CH1,SPI5_NSS,SAI1_SD_B,UART7_RX,FMC_NIORD,EVENTOUT/ADC3_IN4", K3 PF5 (io) "PF5/FMC_A5,EVENTOUT/ADC3_IN15", K13 PD15 (io) "PD15/TIM4_CH4,FMC_D1,EVENTOUT", K14 PB13 (io) "PB13/TIM1_CH1N,SPI2_SCK/I2S2_CK,USART3_CTS,CAN2_TX,OTG_HS_ULPI_D6,ETH_MII_TXD1/ETH_RMII_TXD1,EVENTOUT/OTG_HS_VBUS", K15 PD10 (io) "PD10/USART3_CK,FMC_D15,LCD_B3,EVENTOUT", L1 PF10 (io) "PF10/FMC_INTR,DCMI_D11,LCD_DE,EVENTOUT/ADC3_IN8", L2 PF9 (io) "PF9/SPI5_MOSI,SAI1_FS_B,TIM14_CH1,FMC_CD,EVENTOUT/ADC3_IN7", L3 PF8 (io) "PF8/SPI5_MISO,SAI1_SCK_B,TIM13_CH1,FMC_NIOWR,EVENTOUT/ADC3_IN6", L4 PC3 (io) "PC3/SPI2_MOSI/I2S2_SD,OTG_HS_ULPI_NXT,ETH_MII_TX_CLK,FMC_SDCKE0,EVENTOUT/ADC123_IN13", L12 PD14 (io) "PD14/TIM4_CH3,FMC_D0,EVENTOUT", L13 PB12 (io) "PB12/TIM1_BKIN,I2C2_SMBA,SPI2_NSS/I2S2_WS,USART3_CK,CAN2_RX,OTG_HS_ULPI_D5,ETH_MII_TXD0/ETH_RMII_TXD0,OTG_HS_ID,EVENTOUT", L14 PD9 (io) "PD9/USART3_RX,FMC_D14,EVENTOUT", L15 PD8 (io) "PD8/USART3_TX,FMC_D13,EVENTOUT", M2 PC0 (io) "PC0/OTG_HS_ULPI_STP,FMC_SDNWE,EVENTOUT/ADC123_IN10", M3 PC1 (io) "PC1/ETH_MDC,EVENTOUT/ADC123_IN11", M4 PC2 (io) "PC2/SPI2_MISO,I2S2ext_SD,OTG_HS_ULPI_DIR,ETH_MII_TXD2,FMC_SDNE0,EVENTOUT/ADC123_IN12", M5 PB2 (io) "PB2-BOOT1(PB2)/EVENTOUT", M6 PF12 (io) "PF12/FMC_A6,EVENTOUT", M8 PF15 (io) "PF15/FMC_A9,EVENTOUT", M10 PD12 (io) "PD12/TIM4_CH1,USART3_RTS,FMC_A17,EVENTOUT", M11 PD13 (io) "PD13/TIM4_CH2,FMC_A18,EVENTOUT", N2 PA1 (io) "PA1/TIM2_CH2,TIM5_CH2,USART2_RTS,UART4_RX,ETH_MII_RX_CLK/ETH_RMII_REF_CLK,EVENTOUT/ADC123_IN1", N3 PA0 (io) "PA0-WKUP(PA0)/TIM2_CH1/TIM2_ETR,TIM5_CH1,TIM8_ETR,USART2_CTS,UART4_TX,ETH_MII_CRS,EVENTOUT/ADC123_IN0/WKUP", N4 PA4 (io) "PA4/SPI1_NSS,SPI3_NSS/I2S3_WS,USART2_CK,OTG_HS_SOF,DCMI_HSYNC,LCD_VSYNC,EVENTOUT/ADC12_IN4/DAC_OUT1", N5 PC4 (io) "PC4/ETH_MII_RXD0/ETH_RMII_RXD0,EVENTOUT/ADC12_IN14", N6 PF13 (io) "PF13/FMC_A7,EVENTOUT", N9 PE8 (io) "PE8/TIM1_CH1N,UART7_TX,FMC_D5,EVENTOUT", N10 PD11 (io) "PD11/USART3_CTS,FMC_A16,EVENTOUT", P2 PA2 (io) "PA2/TIM2_CH3,TIM5_CH3,TIM9_CH1,USART2_TX,ETH_MDIO,EVENTOUT/ADC123_IN2", P3 PA6 (io) "PA6/TIM1_BKIN,TIM3_CH1,TIM8_BKIN,SPI1_MISO,TIM13_CH1,DCMI_PIXCLK,LCD_G2,EVENTOUT/ADC12_IN6", P4 PA5 (io) "PA5/TIM2_CH1/TIM2_ETR,TIM8_CH1N,SPI1_SCK,OTG_HS_ULPI_CK,EVENTOUT/ADC12_IN5/DAC_OUT2", P5 PC5 (io) "PC5/ETH_MII_RXD1/ETH_RMII_RXD1,EVENTOUT/ADC12_IN15", P6 PF14 (io) "PF14/FMC_A8,EVENTOUT", P8 PF11 (io) "PF11/SPI5_MOSI,FMC_SDNRAS,DCMI_D12,EVENTOUT", P9 PE9 (io) "PE9/TIM1_CH1,FMC_D6,EVENTOUT", P10 PE11 (io) "PE11/TIM1_CH2,SPI4_NSS,FMC_D8,LCD_G3,EVENTOUT", P11 PE14 (io) "PE14/TIM1_CH4,SPI4_MOSI,FMC_D11,LCD_CLK,EVENTOUT", P12 PB10 (io) "PB10/TIM2_CH3,I2C2_SCL,SPI2_SCK/I2S2_CK,USART3_TX,OTG_HS_ULPI_D3,ETH_MII_RX_ER,LCD_G4,EVENTOUT", R2 PA3 (io) "PA3/TIM2_CH4,TIM5_CH4,TIM9_CH2,USART2_RX,OTG_HS_ULPI_D0,ETH_MII_COL,LCD_B5,EVENTOUT/ADC123_IN3", R3 PA7 (io) "PA7/TIM1_CH1N,TIM3_CH2,TIM8_CH1N,SPI1_MOSI,TIM14_CH1,ETH_MII_RX_DV/ETH_RMII_CRS_DV,EVENTOUT/ADC12_IN7", R4 PB1 (io) "PB1/TIM1_CH3N,TIM3_CH4,TIM8_CH3N,LCD_R6,OTG_HS_ULPI_D2,ETH_MII_RXD3,EVENTOUT/ADC12_IN9", R5 PB0 (io) "PB0/TIM1_CH2N,TIM3_CH3,TIM8_CH2N,LCD_R3,OTG_HS_ULPI_D1,ETH_MII_RXD2,EVENTOUT/ADC12_IN8", R8 PE7 (io) "PE7/TIM1_ETR,UART7_RX,FMC_D4,EVENTOUT", R9 PE10 (io) "PE10/TIM1_CH2N,FMC_D7,EVENTOUT", R10 PE12 (io) "PE12/TIM1_CH3N,SPI4_SCK,FMC_D9,LCD_B4,EVENTOUT", R11 PE15 (io) "PE15/TIM1_BKIN,FMC_D12,LCD_R7,EVENTOUT", R12 PE13 (io) "PE13/TIM1_CH3,SPI4_MISO,FMC_D10,LCD_DE,EVENTOUT", R13 PB11 (io) "PB11/TIM2_CH4,I2C2_SDA,USART3_RX,OTG_HS_ULPI_D4,ETH_MII_TX_EN/ETH_RMII_TX_EN,LCD_G5,EVENTOUT", R14 PB14 (io) "PB14/TIM1_CH2N,TIM8_CH2N,SPI2_MISO,I2S2ext_SD,USART3_RTS,TIM12_CH1,EVENTOUT/OTG_HS_DM", R15 PB15 (io) "PB15/RTC_REFIN,TIM1_CH3N,TIM8_CH3N,SPI2_MOSI/I2S2_SD,TIM12_CH2,EVENTOUT/OTG_HS_DP"
part B pins: A4 PG14 (io) "PG14/SPI6_MOSI,USART6_TX,ETH_MII_TXD1/ETH_RMII_TXD1,FMC_A25,EVENTOUT", B3 PG13 (io) "PG13/SPI6_SCK,USART6_CTS,ETH_MII_TXD0/ETH_RMII_TXD0,FMC_A24,EVENTOUT", B7 PG15 (io) "PG15/USART6_CTS,FMC_SDNCAS,DCMI_D13,EVENTOUT", B8 PG11 (io) "PG11/ETH_MII_TX_EN/ETH_RMII_TX_EN,FMC_NCE4_2,DCMI_D3,LCD_B3,EVENTOUT", B9 PJ13 (io) "PJ13/LCD_B1,EVENTOUT", B10 PJ12 (io) "PJ12/LCD_B0,EVENTOUT", C2 PI8 (io) "PI8/EVENTOUT/TAMP_2", C3 PI4 (io) "PI4/TIM8_BKIN,FMC_NBL2,DCMI_D5,LCD_B4,EVENTOUT", C4 PK7 (io) "PK7/LCD_DE,EVENTOUT", C5 PK6 (io) "PK6/LCD_B7,EVENTOUT", C6 PK5 (io) "PK5/LCD_B6,EVENTOUT", C7 PG12 (io) "PG12/SPI6_MISO,USART6_RTS,LCD_B4,FMC_NE4,LCD_B1,EVENTOUT", C8 PG10 (io) "PG10/LCD_G3,FMC_NCE4_1/FMC_NE3,DCMI_D2,LCD_B2,EVENTOUT", C9 PJ14 (io) "PJ14/LCD_B2,EVENTOUT", C13 PI3 (io) "PI3/TIM8_ETR,SPI2_MOSI/I2S2_SD,FMC_D27,DCMI_D10,EVENTOUT", C14 PI2 (io) "PI2/TIM8_CH4,SPI2_MISO,I2S2ext_SD,FMC_D26,DCMI_D9,LCD_G7,EVENTOUT", D3 PI5 (io) "PI5/TIM8_CH1,FMC_NBL3,DCMI_VSYNC,LCD_B5,EVENTOUT", D4 PI7 (io) "PI7/TIM8_CH3,FMC_D29,DCMI_D7,LCD_B7,EVENTOUT", D5 PI10 (io) "PI10/ETH_MII_RX_ER,FMC_D31,LCD_HSYNC,EVENTOUT", D6 PI6 (io) "PI6/TIM8_CH2,FMC_D28,DCMI_D6,LCD_B6,EVENTOUT", D7 PK4 (io) "PK4/LCD_B5,EVENTOUT", D8 PK3 (io) "PK3/LCD_B4,EVENTOUT", D9 PG9 (io) "PG9/USART6_RX,FMC_NE2/FMC_NCE3,EVENTOUT", D10 PJ15 (io) "PJ15/LCD_B3,EVENTOUT", D13 PH15 (io) "PH15/TIM8_CH3N,FMC_D23,DCMI_D11,LCD_G4,EVENTOUT", D14 PI1 (io) "PI1/SPI2_SCK/I2S2_CK,FMC_D25,DCMI_D8,LCD_G6,EVENTOUT", E1 OSC32-IN (io) "PC14-OSC32_IN(PC14)/EVENTOUT/OSC32_IN", E3 PI12 (io) "PI12/LCD_HSYNC,EVENTOUT", E4 PI9 (io) "PI9/CAN1_RX,FMC_D30,LCD_VSYNC,EVENTOUT", E6 BOOT0 (in) "BOOT0/VPP", E12 PH13 (io) "PH13/TIM8_CH1N,CAN1_TX,FMC_D21,LCD_G2,EVENTOUT", E13 PH14 (io) "PH14/TIM8_CH2N,FMC_D22,DCMI_D4,LCD_G3,EVENTOUT", E14 PI0 (io) "PI0/TIM5_CH4,SPI2_NSS/I2S2_WS,FMC_D24,DCMI_D13,LCD_G5,EVENTOUT", F1 OSC32-OUT (io) "PC15-OSC32_OUT(PC15)/EVENTOUT/OSC32_OUT", F3 PI11 (io) "PI11/OTG_HS_ULPI_DIR,EVENTOUT", F12 PK1 (io) "PK1/LCD_G6,EVENTOUT", F13 PK2 (io) "PK2/LCD_G7,EVENTOUT", G1 OSC-IN (io) "PH0-OSC_IN(PH0)/EVENTOUT/OSC_IN", G3 PI13 (io) "PI13/LCD_VSYNC,EVENTOUT", G4 PI15 (io) "PI15/LCD_R0,EVENTOUT", G12 PJ11 (io) "PJ11/LCD_G4,EVENTOUT", G13 PK0 (io) "PK0/LCD_G5,EVENTOUT", H1 OSC-OUT (io) "PH1-OSC_OUT(PH1)/EVENTOUT/OSC_OUT", H3 PI14 (io) "PI14/LCD_CLK,EVENTOUT", H4 PH4 (io) "PH4/I2C2_SCL,OTG_HS_ULPI_NXT,EVENTOUT", H12 PJ8 (io) "PJ8/LCD_G1,EVENTOUT", H13 PJ10 (io) "PJ10/LCD_G3,EVENTOUT", H14 PG8 (io) "PG8/SPI6_NSS,USART6_RTS,ETH_PPS_OUT,FMC_SDCLK,EVENTOUT", J1 NRST (io), J3 PH5 (io) "PH5/I2C2_SDA,SPI5_NSS,FMC_SDNWE,EVENTOUT", J4 PH3 (io) "PH3/ETH_MII_COL,FMC_SDNE0,LCD_R1,EVENTOUT", J12 PJ7 (io) "PJ7/LCD_G0,EVENTOUT", J13 PJ9 (io) "PJ9/LCD_G2,EVENTOUT", J14 PG7 (io) "PG7/USART6_CK,FMC_INT3,DCMI_D13,LCD_CLK,EVENTOUT", J15 PG6 (io) "PG6/FMC_INT2,DCMI_D12,LCD_R7,EVENTOUT", K4 PH2 (io) "PH2/ETH_MII_CRS,FMC_SDCKE0,LCD_R0,EVENTOUT", K12 PJ6 (io) "PJ6/LCD_R7,EVENTOUT", M7 PG1 (io) "PG1/FMC_A11,EVENTOUT", M9 PJ4 (io) "PJ4/LCD_R5,EVENTOUT", M12 PG3 (io) "PG3/FMC_A13,EVENTOUT", M13 PG2 (io) "PG2/FMC_A12,EVENTOUT", M14 PJ5 (io) "PJ5/LCD_R6,EVENTOUT", M15 PH12 (io) "PH12/TIM5_CH3,FMC_D20,DCMI_D3,LCD_R6,EVENTOUT", N7 PG0 (io) "PG0/FMC_A10,EVENTOUT", N8 PJ3 (io) "PJ3/LCD_R4,EVENTOUT", N11 PG5 (io) "PG5/FMC_A15/FMC_BA1,EVENTOUT", N12 PG4 (io) "PG4/FMC_A14/FMC_BA0,EVENTOUT", N13 PH7 (io) "PH7/I2C3_SCL,SPI5_MISO,ETH_MII_RXD3,FMC_SDCKE1,DCMI_D9,EVENTOUT", N14 PH9 (io) "PH9/I2C3_SMBA,TIM12_CH2,FMC_D17,DCMI_D0,LCD_R3,EVENTOUT", N15 PH11 (io) "PH11/TIM5_CH2,FMC_D19,DCMI_D2,LCD_R5,EVENTOUT", P7 PJ2 (io) "PJ2/LCD_R3,EVENTOUT", P13 PH6 (io) "PH6/I2C2_SMBA,SPI5_SCK,TIM12_CH1,ETH_MII_RXD2,FMC_SDNE1,DCMI_D8,EVENTOUT", P14 PH8 (io) "PH8/I2C3_SDA,FMC_D16,DCMI_HSYNC,LCD_R2,EVENTOUT", P15 PH10 (io) "PH10/TIM5_CH1,FMC_D18,DCMI_D1,LCD_R4,EVENTOUT", R6 PJ0 (io) "PJ0/LCD_R1,EVENTOUT", R7 PJ1 (io) "PJ1/LCD_R2,EVENTOUT"
part C pins: C1 VBAT (power), E5 PDR-ON (in) "PDR_ON", E7 VDD (power), E8 VDD (power), E9 VDD (power), E10 VDD (power), E11 VCAP2 (power) "VCAP_2", F2 VSS (power), F4 VDD (power), F5 VDD (power), F6 VSS (power), F7 VSS (power), F8 VSS (power), F9 VSS (power), F10 VSS (power), F11 VDD (power), G5 VDD (power), G6 VSS (power), G10 VSS (power), G11 VDD (power), H5 VDD (power), H6 VSS (power), H10 VSS (power), H11 VDD (power), J5 VDD (power), J6 VSS (power), J10 VSS (power), J11 VDD (power), K5 VDD (power), K6 VSS (power), K7 VSS (power), K8 VSS (power), K9 VSS (power), K10 VSS (power), K11 VDD (power), L5 BYPASS-REG (in) "BYPASS_REG", L6 VSS (power), L7 VDD (power), L8 VDD (power), L9 VDD (power), L10 VDD (power), L11 VCAP1 (power) "VCAP_1", M1 VSSA (power), N1 VREF- (power), P1 VREF+ (power), R1 VDDA (power)

## STM32F746BGT6
designator D?  PartNumber: STM32F746BGT6
Cortex-M7; Manufacturer: STMicroelectronics; ValueManufacturerPartNumber: IC microcontroller, 32-Bit, Cortex-M7, 216MHz, 1024KB, 320KB, 1.7...3.6V, -40...+85°C, 208-LQFP; Supply: 1.7...3.6V; Speed: 216MHz; CoreSize: 32-Bit; MemoryROM: 1024KB; MemoryRAM: 320KB; HelpURL: https://www.digikey.com/products/en?keywords=STM32F746BGT6; Package: 208-LQFP; ComponentType: IC microcontroller; Temperature: -40...+85°C; CoreProcessor: Cortex-M7
footprint 208-LQFP (pitch 0.5 mm)
part A pins: 1 PE2 (io), 2 PE3 (io), 3 PE4 (io), 4 PE5 (io), 5 PE6 (io), 7 PI8 (io), 11 PI9 (io), 12 PI10 (io), 13 PI11 (io), 16 PF0 (io), 17 PF1 (io), 18 PF2 (io), 19 PI12 (io), 20 PI13 (io), 21 PI14 (io), 22 PF3 (io), 23 PF4 (io), 24 PF5 (io), 27 PF6 (io), 28 PF7 (io), 29 PF8 (io), 30 PF9 (io), 31 PF10 (io), 61 PB0 (io), 62 PB1 (io), 63 PB2 (io), 64 PI15 (io), 65 PJ0 (io), 66 PJ1 (io), 67 PJ2 (io), 68 PJ3 (io), 69 PJ4 (io), 70 PF11 (io), 71 PF12 (io), 74 PF13 (io), 75 PF14 (io), 76 PF15 (io), 79 PE7 (io), 80 PE8 (io), 81 PE9 (io), 84 PE10 (io), 85 PE11 (io), 86 PE12 (io), 87 PE13 (io), 88 PE14 (io), 89 PE15 (io), 90 PB10 (io), 91 PB11 (io), 95 PJ5 (io), 104 PB12 (io), 105 PB13 (io), 106 PB14 (io), 107 PB15 (io), 108 PD8 (io), 109 PD9 (io), 110 PD10 (io), 111 PD11 (io), 112 PD12 (io), 113 PD13 (io), 116 PD14 (io), 117 PD15 (io), 118 PJ6 (io), 119 PJ7 (io), 120 PJ8 (io), 121 PJ9 (io), 122 PJ10 (io), 123 PJ11 (io), 154 PI0 (io), 155 PI1 (io), 156 PI2 (io), 157 PI3 (io), 164 PD0 (io), 165 PD1 (io), 166 PD2 (io), 167 PD3 (io), 168 PD4 (io), 169 PD5 (io), 172 PD6 (io), 173 PD7 (io), 174 PJ12 (io), 175 PJ13 (io), 176 PJ14 (io), 177 PJ15 (io), 193 PB4 (io), 194 PB5 (io), 195 PB6 (io), 196 PB7 (io), 198 PB8 (io), 199 PB9 (io), 200 PE0 (io), 201 PE1 (io), 205 PI4 (io), 206 PI5 (io), 207 PI6 (io), 208 PI7 (io)
part B pins: 8 PC13 (io), 9 OSC32-IN (in), 10 OSC32-OUT (out), 32 OSC-IN (in), 33 OSC-OUT (out), 34 NRST (in), 35 PC0 (io), 36 PC1 (io), 37 PC2 (io), 38 PC3 (io), 43 PA0 (io), 44 PA1 (io), 45 PA2 (io), 46 PH2 (io), 47 PH3 (io), 48 PH4 (io), 49 PH5 (io), 50 PA3 (io), 53 PA4 (io), 54 PA5 (io), 55 PA6 (io), 56 PA7 (io), 57 PC4 (io), 58 PC5 (io), 77 PG0 (io), 78 PG1 (io), 96 PH6 (io), 97 PH7 (io), 98 PH8 (io), 99 PH9 (io), 100 PH10 (io), 101 PH11 (io), 102 PH12 (io), 126 PK0 (io), 127 PK1 (io), 128 PK2 (io), 129 PG2 (io), 130 PG3 (io), 131 PG4 (io), 132 PG5 (io), 133 PG6 (io), 134 PG7 (io), 135 PG8 (io), 138 PC6 (io), 139 PC7 (io), 140 PC8 (io), 141 PC9 (io), 142 PA8 (io), 143 PA9 (io), 144 PA10 (io), 145 PA11 (io), 146 PA12 (io), 147 SWDIO (io), 151 PH13 (io), 152 PH14 (io), 153 PH15 (io), 159 SWCLK (io), 160 PA15 (io), 161 PC10 (io), 162 PC11 (io), 163 PC12 (io), 178 PG9 (io), 179 PG10 (io), 180 PG11 (io), 181 PG12 (io), 182 PG13 (io), 183 PG14 (io), 186 PK3 (io), 187 PK4 (io), 188 PK5 (io), 189 PK6 (io), 190 PK7 (io), 191 PG15 (io), 192 SWO (io), 197 BOOT0 (in)
part C pins: 6 VBAT, 14 VSS, 15 VDD, 25 VSS, 26 VDD, 39 VDD, 40 VSSA, 41 VREF, 42 VDDA, 51 VSS, 52 VDD, 59 VDD, 60 VSS, 72 VSS, 73 VDD, 82 VSS, 83 VDD, 92 VCAP1, 93 VSS, 94 VDD, 103 VDD, 114 VSS, 115 VDD, 124 VDD, 125 VSS, 136 VSS, 137 VDDUSB, 148 VCAP2, 149 VSS, 150 VDD, 158 VDD, 170 VSS, 171 VDD, 184 VSS, 185 VDD, 202 VSS, 203 PDR-ON, 204 VDD

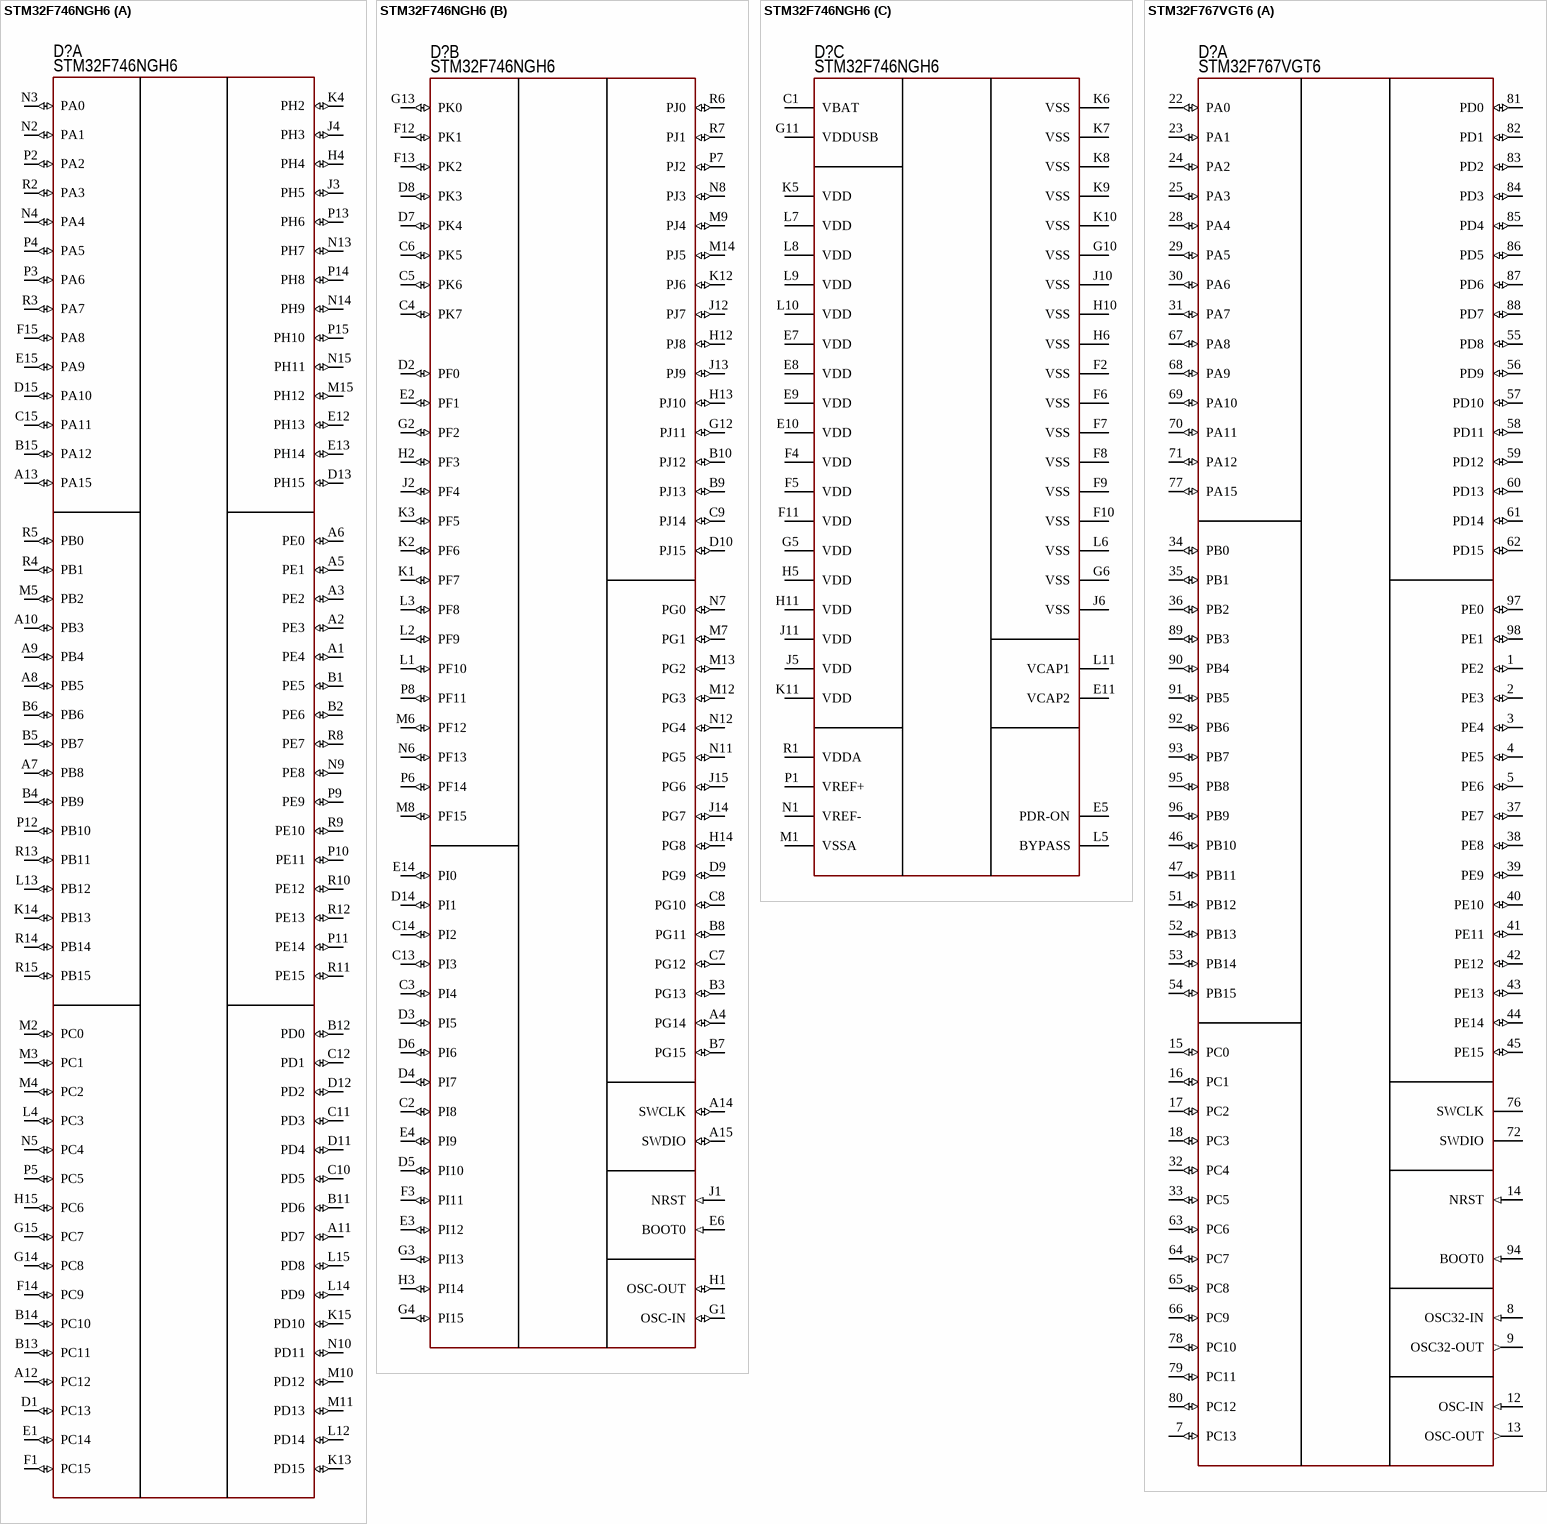
[diagram p6: symbols STM32F746NGH6 to STM32F767VGT6]

## STM32F746NGH6
designator D?  PartNumber: STM32F746NGH6
Cortex-M7; Manufacturer: STMicroelectronics; ValueManufacturerPartNumber: IC microcontroller, 32-Bit, Cortex-M7, 216MHz, 1024KB, 320KB, 1.7...3.6V, -40...+85°C, 216-TFBGA; Supply: 1.7...3.6V; Speed: 216MHz; CoreSize: 32-Bit; MemoryROM: 1024KB; MemoryRAM: 320KB; HelpURL: https://www.digikey.com/product-detail/en/stmicroelectronics/STM32F746NGH6/497-15818-ND/5287177; Package: 216-TFBGA; ComponentType: IC microcontroller; Temperature: -40...+85°C; CoreProcessor: Cortex-M7
footprint 216-TFBGA (pitch 0.8mm)
part A pins: A1 PE4 (io), A2 PE3 (io), A3 PE2 (io), A5 PE1 (io), A6 PE0 (io), A7 PB8 (io), A8 PB5 (io), A9 PB4 (io), A10 PB3 (io), A11 PD7 (io), A12 PC12 (io), A13 PA15 (io), B1 PE5 (io), B2 PE6 (io), B4 PB9 (io), B5 PB7 (io), B6 PB6 (io), B11 PD6 (io), B12 PD0 (io), B13 PC11 (io), B14 PC10 (io), B15 PA12 (io), C10 PD5 (io), C11 PD3 (io), C12 PD1 (io), C15 PA11 (io), D1 PC13 (io), D11 PD4 (io), D12 PD2 (io), D13 PH15 (io), D15 PA10 (io), E1 PC14 (io), E12 PH13 (io), E13 PH14 (io), E15 PA9 (io), F1 PC15 (io), F14 PC9 (io), F15 PA8 (io), G14 PC8 (io), G15 PC7 (io), H4 PH4 (io), H15 PC6 (io), J3 PH5 (io), J4 PH3 (io), K4 PH2 (io), K13 PD15 (io), K14 PB13 (io), K15 PD10 (io), L4 PC3 (io), L12 PD14 (io), L13 PB12 (io), L14 PD9 (io), L15 PD8 (io), M2 PC0 (io), M3 PC1 (io), M4 PC2 (io), M5 PB2 (io), M10 PD12 (io), M11 PD13 (io), M15 PH12 (io), N2 PA1 (io), N3 PA0 (io), N4 PA4 (io), N5 PC4 (io), N9 PE8 (io), N10 PD11 (io), N13 PH7 (io), N14 PH9 (io), N15 PH11 (io), P2 PA2 (io), P3 PA6 (io), P4 PA5 (io), P5 PC5 (io), P9 PE9 (io), P10 PE11 (io), P11 PE14 (io), P12 PB10 (io), P13 PH6 (io), P14 PH8 (io), P15 PH10 (io), R2 PA3 (io), R3 PA7 (io), R4 PB1 (io), R5 PB0 (io), R8 PE7 (io), R9 PE10 (io), R10 PE12 (io), R11 PE15 (io), R12 PE13 (io), R13 PB11 (io), R14 PB14 (io), R15 PB15 (io)
part B pins: A4 PG14 (io), A14 SWCLK (io), A15 SWDIO (io), B3 PG13 (io), B7 PG15 (io), B8 PG11 (io), B9 PJ13 (io), B10 PJ12 (io), C2 PI8 (io), C3 PI4 (io), C4 PK7 (io), C5 PK6 (io), C6 PK5 (io), C7 PG12 (io), C8 PG10 (io), C9 PJ14 (io), C13 PI3 (io), C14 PI2 (io), D2 PF0 (io), D3 PI5 (io), D4 PI7 (io), D5 PI10 (io), D6 PI6 (io), D7 PK4 (io), D8 PK3 (io), D9 PG9 (io), D10 PJ15 (io), D14 PI1 (io), E2 PF1 (io), E3 PI12 (io), E4 PI9 (io), E6 BOOT0 (in), E14 PI0 (io), F3 PI11 (io), F12 PK1 (io), F13 PK2 (io), G1 OSC-IN (io), G2 PF2 (io), G3 PI13 (io), G4 PI15 (io), G12 PJ11 (io), G13 PK0 (io), H1 OSC-OUT (io), H2 PF3 (io), H3 PI14 (io), H12 PJ8 (io), H13 PJ10 (io), H14 PG8 (io), J1 NRST (in), J2 PF4 (io), J12 PJ7 (io), J13 PJ9 (io), J14 PG7 (io), J15 PG6 (io), K1 PF7 (io), K2 PF6 (io), K3 PF5 (io), K12 PJ6 (io), L1 PF10 (io), L2 PF9 (io), L3 PF8 (io), M6 PF12 (io), M7 PG1 (io), M8 PF15 (io), M9 PJ4 (io), M12 PG3 (io), M13 PG2 (io), M14 PJ5 (io), N6 PF13 (io), N7 PG0 (io), N8 PJ3 (io), N11 PG5 (io), N12 PG4 (io), P6 PF14 (io), P7 PJ2 (io), P8 PF11 (io), R6 PJ0 (io), R7 PJ1 (io)
part C pins: C1 VBAT (power), E5 PDR-ON (power), E7 VDD (power), E8 VDD (power), E9 VDD (power), E10 VDD (power), E11 VCAP2 (power), F2 VSS (power), F4 VDD (power), F5 VDD (power), F6 VSS (power), F7 VSS (power), F8 VSS (power), F9 VSS (power), F10 VSS (power), F11 VDD (power), G5 VDD (power), G6 VSS (power), G10 VSS (power), G11 VDDUSB (power), H5 VDD (power), H6 VSS (power), H10 VSS (power), H11 VDD (power), J5 VDD (power), J6 VSS (power), J10 VSS (power), J11 VDD (power), K5 VDD (power), K6 VSS (power), K7 VSS (power), K8 VSS (power), K9 VSS (power), K10 VSS (power), K11 VDD (power), L5 BYPASS (power), L6 VSS (power), L7 VDD (power), L8 VDD (power), L9 VDD (power), L10 VDD (power), L11 VCAP1 (power), M1 VSSA (power), N1 VREF- (power), P1 VREF+ (power), R1 VDDA (power)

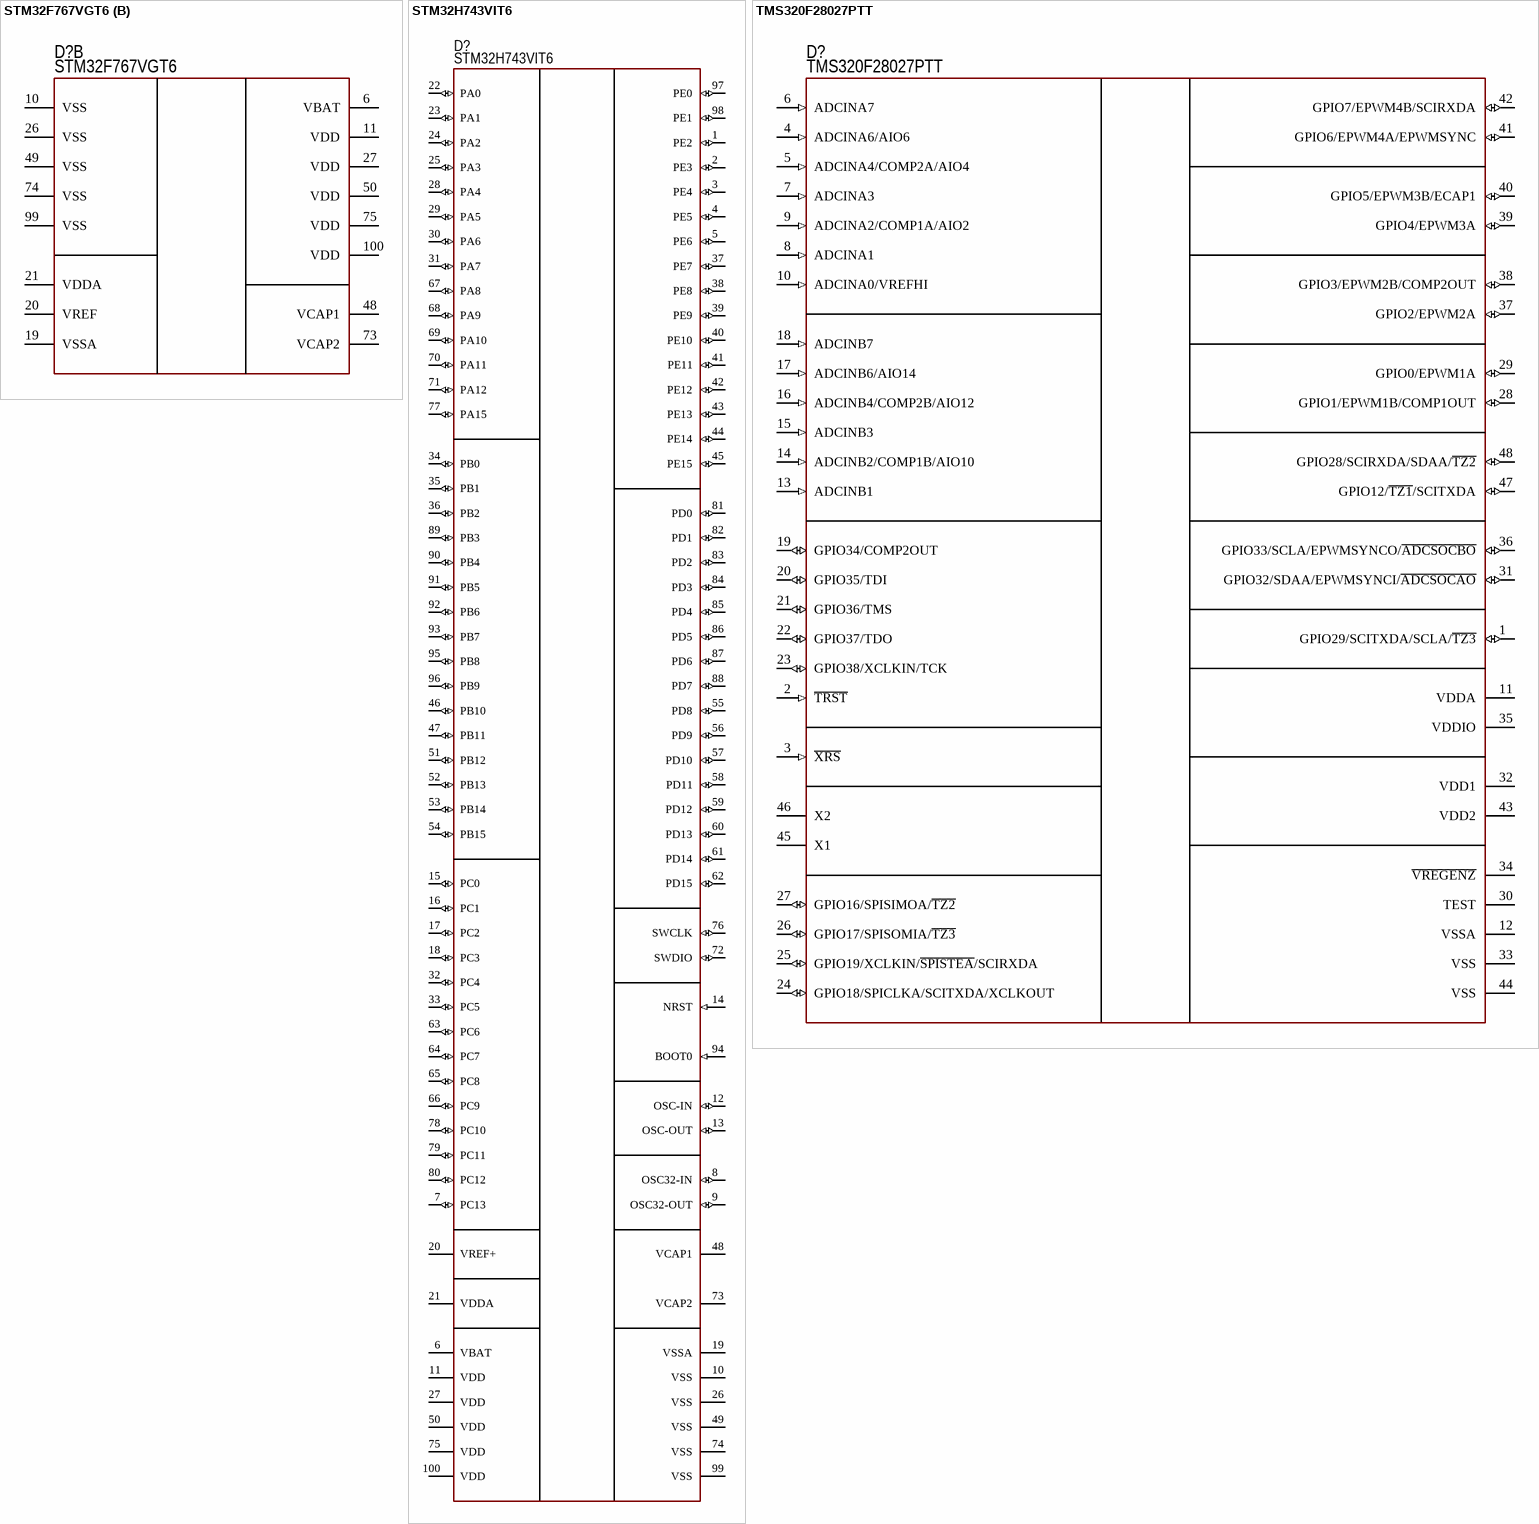
[diagram p7: symbols STM32F767VGT6 to TMS320F28027PTT]

## STM32F767VGT6
designator D?  PartNumber: STM32F767VGT6
Cortex-M7; Manufacturer: STMicroelectronics; ValueManufacturerPartNumber: IC microcontroller, 32-Bit, Cortex-M7, 216MHz, 1024KB, 512KB, 1.7...3.6V, -40...+85°C, 100-LQFP; Supply: 1.7...3.6V; Speed: 216MHz; CoreSize: 32-Bit; MemoryROM: 1024KB; MemoryRAM: 512KB; HelpURL: https://www.digikey.com/products/en?keywords=STM32F767VGT6; Package: 100-LQFP; ComponentType: IC microcontroller; Temperature: -40...+85°C; CoreProcessor: Cortex-M7
footprint 100-LQFP (Thin QFP, 100-Leads, Body 14x14mm, Pitch 0.5mm, IPC Medium Density)
part A pins: 1 PE2 (io), 2 PE3 (io), 3 PE4 (io), 4 PE5 (io), 5 PE6 (io), 7 PC13 (io), 8 OSC32-IN (in), 9 OSC32-OUT (out), 12 OSC-IN (in), 13 OSC-OUT (out), 14 NRST (in), 15 PC0 (io), 16 PC1 (io), 17 PC2 (io), 18 PC3 (io), 22 PA0 (io), 23 PA1 (io), 24 PA2 (io), 25 PA3 (io), 28 PA4 (io), 29 PA5 (io), 30 PA6 (io), 31 PA7 (io), 32 PC4 (io), 33 PC5 (io), 34 PB0 (io), 35 PB1 (io), 36 PB2 (io), 37 PE7 (io), 38 PE8 (io), 39 PE9 (io), 40 PE10 (io), 41 PE11 (io), 42 PE12 (io), 43 PE13 (io), 44 PE14 (io), 45 PE15 (io), 46 PB10 (io), 47 PB11 (io), 51 PB12 (io), 52 PB13 (io), 53 PB14 (io), 54 PB15 (io), 55 PD8 (io), 56 PD9 (io), 57 PD10 (io), 58 PD11 (io), 59 PD12 (io), 60 PD13 (io), 61 PD14 (io), 62 PD15 (io), 63 PC6 (io), 64 PC7 (io), 65 PC8 (io), 66 PC9 (io), 67 PA8 (io), 68 PA9 (io), 69 PA10 (io), 70 PA11 (io), 71 PA12 (io), 72 SWDIO, 76 SWCLK, 77 PA15 (io), 78 PC10 (io), 79 PC11 (io), 80 PC12 (io), 81 PD0 (io), 82 PD1 (io), 83 PD2 (io), 84 PD3 (io), 85 PD4 (io), 86 PD5 (io), 87 PD6 (io), 88 PD7 (io), 89 PB3 (io), 90 PB4 (io), 91 PB5 (io), 92 PB6 (io), 93 PB7 (io), 94 BOOT0 (in), 95 PB8 (io), 96 PB9 (io), 97 PE0 (io), 98 PE1 (io)
part B pins: 6 VBAT (power), 10 VSS (power), 11 VDD (power), 19 VSSA (power), 20 VREF (power), 21 VDDA (power), 26 VSS (power), 27 VDD (power), 48 VCAP1 (power), 49 VSS (power), 50 VDD (power), 73 VCAP2 (power), 74 VSS (power), 75 VDD (power), 99 VSS (power), 100 VDD (power)

## STM32H743VIT6
designator D?  PartNumber: STM32H743VIT6
Cortex-M7; Manufacturer: STMicroelectronics; ValueManufacturerPartNumber: IC microcontroller, 32-Bit, Cortex-M7, 400MHz, 2048KB, 1024KB, 1.71...3.6V, -40...+85°C, 100-LQFP; Supply: 1.71...3.6V; Speed: 400MHz; CoreSize: 32-Bit; MemoryROM: 2048KB; MemoryRAM: 1024KB; HelpURL: https://www.digikey.com/products/en?keywords=STM32H743VIT6; Package: 100-LQFP; ComponentType: IC microcontroller; Temperature: -40...+85°C; CoreProcessor: Cortex-M7
footprint 100-LQFP (Thin QFP, 100-Leads, Body 14x14mm, Pitch 0.5mm, IPC Medium Density)
pins: 1 PE2 (io), 2 PE3 (io), 3 PE4 (io), 4 PE5 (io), 5 PE6 (io), 6 VBAT, 7 PC13 (io), 8 OSC32-IN (io), 9 OSC32-OUT (io), 10 VSS, 11 VDD, 12 OSC-IN (io), 13 OSC-OUT (io), 14 NRST (in), 15 PC0 (io), 16 PC1 (io), 17 PC2 (io), 18 PC3 (io), 19 VSSA, 20 VREF+, 21 VDDA, 22 PA0 (io), 23 PA1 (io), 24 PA2 (io), 25 PA3 (io), 26 VSS, 27 VDD, 28 PA4 (io), 29 PA5 (io), 30 PA6 (io), 31 PA7 (io), 32 PC4 (io), 33 PC5 (io), 34 PB0 (io), 35 PB1 (io), 36 PB2 (io), 37 PE7 (io), 38 PE8 (io), 39 PE9 (io), 40 PE10 (io), 41 PE11 (io), 42 PE12 (io), 43 PE13 (io), 44 PE14 (io), 45 PE15 (io), 46 PB10 (io), 47 PB11 (io), 48 VCAP1, 49 VSS, 50 VDD, 51 PB12 (io), 52 PB13 (io), 53 PB14 (io), 54 PB15 (io), 55 PD8 (io), 56 PD9 (io), 57 PD10 (io), 58 PD11 (io), 59 PD12 (io), 60 PD13 (io), 61 PD14 (io), 62 PD15 (io), 63 PC6 (io), 64 PC7 (io), 65 PC8 (io), 66 PC9 (io), 67 PA8 (io), 68 PA9 (io), 69 PA10 (io), 70 PA11 (io), 71 PA12 (io), 72 SWDIO (io), 73 VCAP2, 74 VSS, 75 VDD, 76 SWCLK (io), 77 PA15 (io), 78 PC10 (io), 79 PC11 (io), 80 PC12 (io), 81 PD0 (io), 82 PD1 (io), 83 PD2 (io), 84 PD3 (io), 85 PD4 (io), 86 PD5 (io), 87 PD6 (io), 88 PD7 (io), 89 PB3 (io), 90 PB4 (io), 91 PB5 (io), 92 PB6 (io), 93 PB7 (io), 94 BOOT0 (in), 95 PB8 (io), 96 PB9 (io), 97 PE0 (io), 98 PE1 (io), 99 VSS, 100 VDD

## TMS320F28027PTT
designator D?  PartNumber: TMS320F28027PTT
C28 Piccolo; Manufacturer: Texas Instruments; ValueManufacturerPartNumber: IC motor control, 32-Bit, C28 Piccolo, 60MHz, 64KB, 12KB, 1.71...3.6V, -40...+105°C, 48-LQFP; Supply: 1.71...3.6V; Speed: 60MHz; CoreSize: 32-Bit; MemoryROM: 64KB; MemoryRAM: 12KB; HelpURL: https://www.digikey.com/products/en?keywords=TMS320F28027PTT; Package: 48-LQFP; ComponentType: IC motor control; Temperature: -40...+105°C; CoreProcessor: C28 Piccolo
footprint 48-LQFP (QFP, 48-Leads, Body 7x7mm, Pitch 0.5mm, IPC Medium Density)
pins: 1 GPIO29/SCITXDA/SCLA/~{TZ3} (io), 2 ~{TRST} (in), 3 ~{XRS} (in), 4 ADCINA6/AIO6 (in), 5 ADCINA4/COMP2A/AIO4 (in), 6 ADCINA7 (in), 7 ADCINA3 (in), 8 ADCINA1 (in), 9 ADCINA2/COMP1A/AIO2 (in), 10 ADCINA0/VREFHI (in), 11 VDDA, 12 VSSA, 13 ADCINB1 (in), 14 ADCINB2/COMP1B/AIO10 (in), 15 ADCINB3 (in), 16 ADCINB4/COMP2B/AIO12 (in), 17 ADCINB6/AIO14 (in), 18 ADCINB7 (in), 19 GPIO34/COMP2OUT (io), 20 GPIO35/TDI (io), 21 GPIO36/TMS (io), 22 GPIO37/TDO (io), 23 GPIO38/XCLKIN/TCK (io), 24 GPIO18/SPICLKA/SCITXDA/XCLKOUT (io), 25 GPIO19/XCLKIN/~{SPISTEA}/SCIRXDA (io), 26 GPIO17/SPISOMIA/~{TZ3} (io), 27 GPIO16/SPISIMOA/~{TZ2} (io), 28 GPIO1/EPWM1B/COMP1OUT (io), 29 GPIO0/EPWM1A (io), 30 TEST, 31 GPIO32/SDAA/EPWMSYNCI/~{ADCSOCAO} (io), 32 VDD1, 33 VSS, 34 ~{VREGENZ}, 35 VDDIO, 36 GPIO33/SCLA/EPWMSYNCO/~{ADCSOCBO} (io), 37 GPIO2/EPWM2A (io), 38 GPIO3/EPWM2B/COMP2OUT (io), 39 GPIO4/EPWM3A (io), 40 GPIO5/EPWM3B/ECAP1 (io), 41 GPIO6/EPWM4A/EPWMSYNC (io), 42 GPIO7/EPWM4B/SCIRXDA (io), 43 VDD2, 44 VSS, 45 X1, 46 X2, 47 GPIO12/~{TZ1}/SCITXDA (io), 48 GPIO28/SCIRXDA/SDAA/~{TZ2} (io)

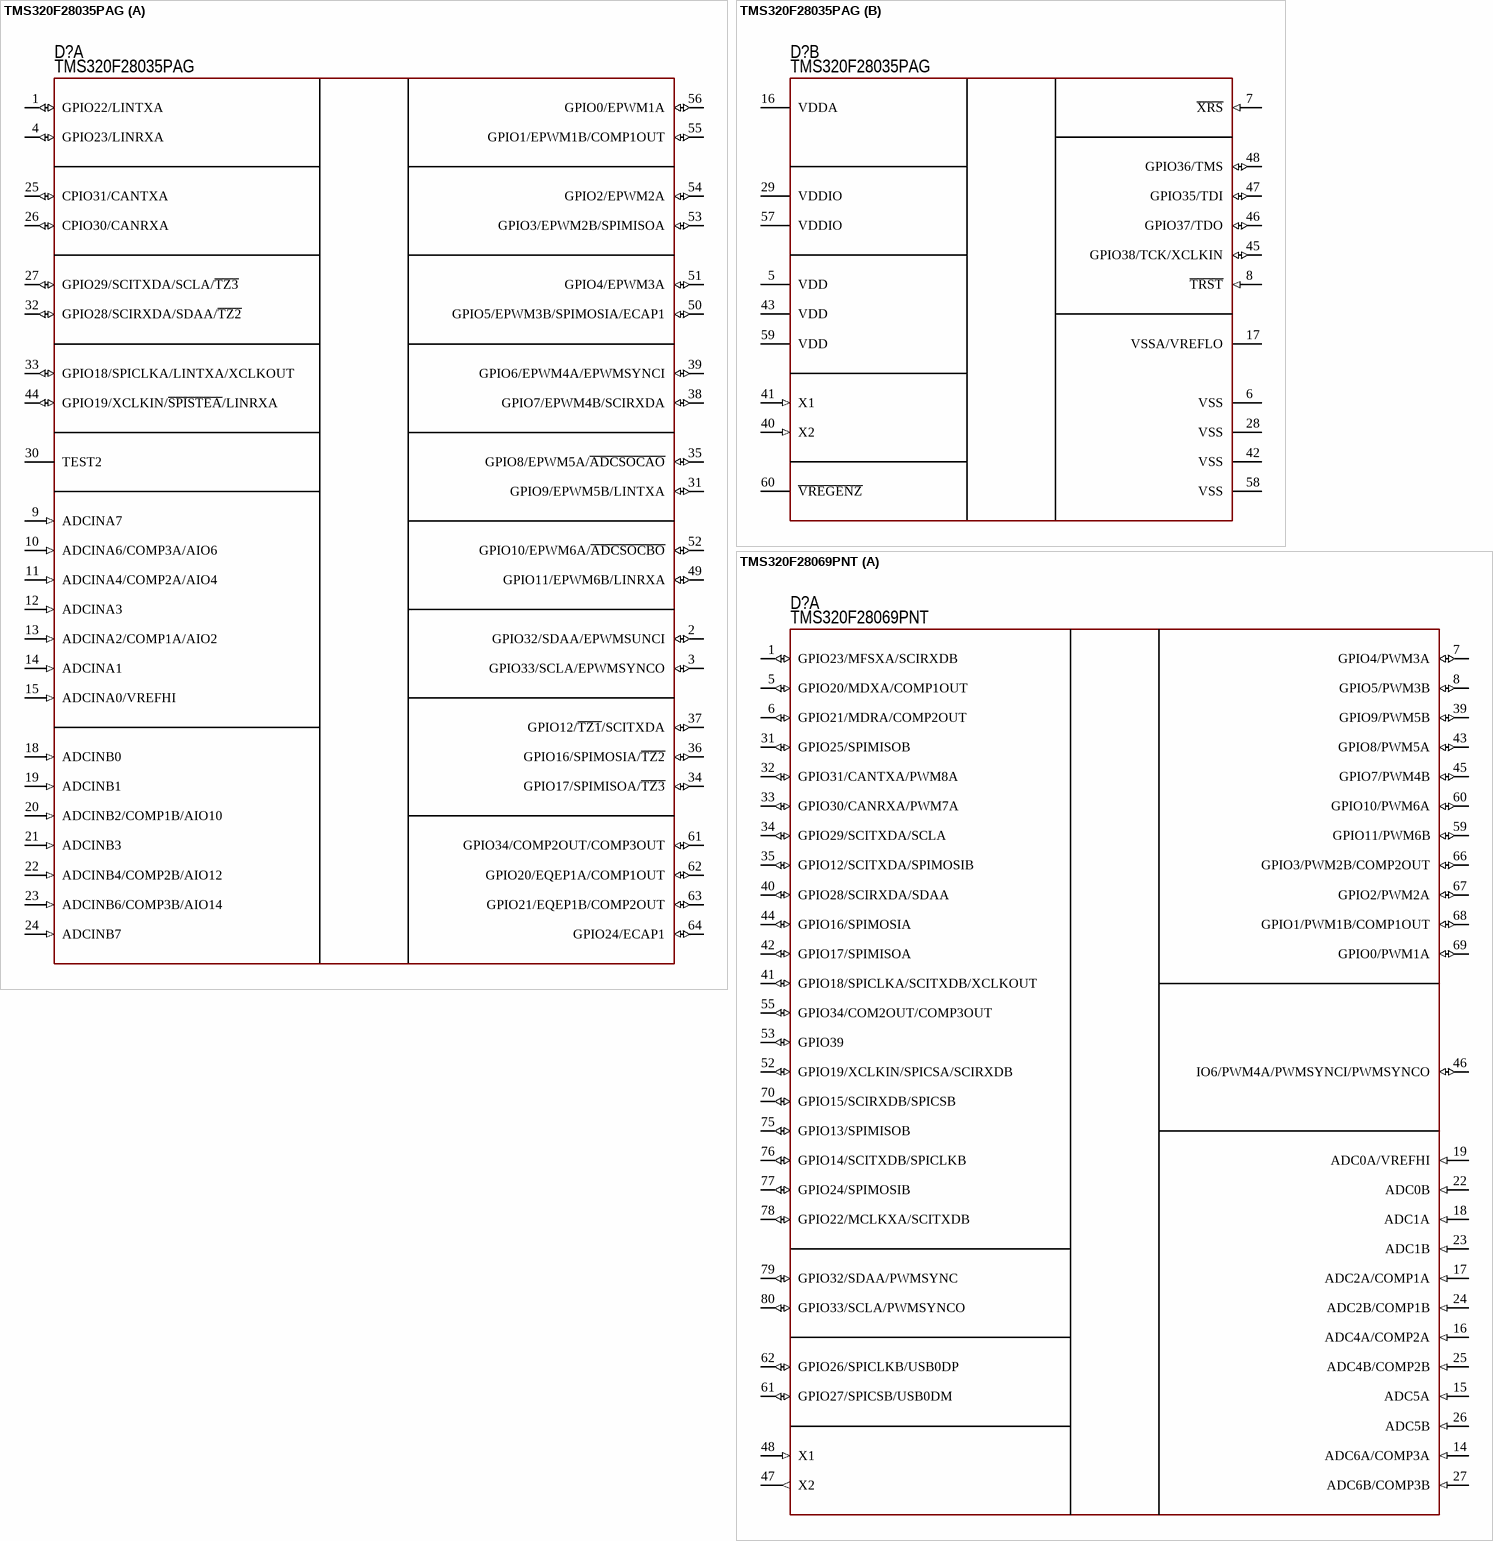
[diagram p8: symbols TMS320F28035PAG to TMS320F28069PNT]

## TMS320F28035PAG
designator D?  PartNumber: TMS320F28035PAG
C28 Piccolo; Manufacturer: Texas Instruments; ValueManufacturerPartNumber: IC motor control, 32-Bit, C28 Piccolo, 60MHz, 128KB, 20KB, 1.71...3.6V, -40...+105°C, 64-TQFP; Supply: 1.71...3.6V; Speed: 60MHz; CoreSize: 32-Bit; MemoryROM: 128KB; MemoryRAM: 20KB; HelpURL: https://www.digikey.com/product-detail/en/texas-instruments/TMS320F28035PAGT/296-32762-ND/2232707; Package: 64-TQFP; ComponentType: IC motor control; Temperature: -40...+105°C; CoreProcessor: C28 Piccolo
footprint 64-LQFP (Thin QFP, 64-Leads, Body 10x10mm, Pitch 0.5mm, IPC Medium Density)
part A pins: 1 GPIO22/LINTXA (io), 2 GPIO32/SDAA/EPWMSUNCI (io), 3 GPIO33/SCLA/EPWMSYNCO (io), 4 GPIO23/LINRXA (io), 9 ADCINA7 (in), 10 ADCINA6/COMP3A/AIO6 (in), 11 ADCINA4/COMP2A/AIO4 (in), 12 ADCINA3 (in), 13 ADCINA2/COMP1A/AIO2 (in), 14 ADCINA1 (in), 15 ADCINA0/VREFHI (in), 18 ADCINB0 (in), 19 ADCINB1 (in), 20 ADCINB2/COMP1B/AIO10 (in), 21 ADCINB3 (in), 22 ADCINB4/COMP2B/AIO12 (in), 23 ADCINB6/COMP3B/AIO14 (in), 24 ADCINB7 (in), 25 CPIO31/CANTXA (io), 26 CPIO30/CANRXA (io), 27 GPIO29/SCITXDA/SCLA/~{TZ3} (io), 30 TEST2, 31 GPIO9/EPWM5B/LINTXA (io), 32 GPIO28/SCIRXDA/SDAA/~{TZ2} (io), 33 GPIO18/SPICLKA/LINTXA/XCLKOUT (io), 34 GPIO17/SPIMISOA/~{TZ3} (io), 35 GPIO8/EPWM5A/~{ADCSOCAO} (io), 36 GPIO16/SPIMOSIA/~{TZ2} (io), 37 GPIO12/~{TZ1}/SCITXDA (io), 38 GPIO7/EPWM4B/SCIRXDA (io), 39 GPIO6/EPWM4A/EPWMSYNCI (io), 44 GPIO19/XCLKIN/~{SPISTEA}/LINRXA (io), 49 GPIO11/EPWM6B/LINRXA (io), 50 GPIO5/EPWM3B/SPIMOSIA/ECAP1 (io), 51 GPIO4/EPWM3A (io), 52 GPIO10/EPWM6A/~{ADCSOCBO} (io), 53 GPIO3/EPWM2B/SPIMISOA (io), 54 GPIO2/EPWM2A (io), 55 GPIO1/EPWM1B/COMP1OUT (io), 56 GPIO0/EPWM1A (io), 61 GPIO34/COMP2OUT/COMP3OUT (io), 62 GPIO20/EQEP1A/COMP1OUT (io), 63 GPIO21/EQEP1B/COMP2OUT (io), 64 GPIO24/ECAP1 (io)
part B pins: 5 VDD, 6 VSS, 7 ~{XRS} (in), 8 ~{TRST} (in), 16 VDDA, 17 VSSA/VREFLO, 28 VSS, 29 VDDIO, 40 X2 (in), 41 X1 (in), 42 VSS, 43 VDD, 45 GPIO38/TCK/XCLKIN (io), 46 GPIO37/TDO (io), 47 GPIO35/TDI (io), 48 GPIO36/TMS (io), 57 VDDIO, 58 VSS, 59 VDD, 60 ~{VREGENZ}

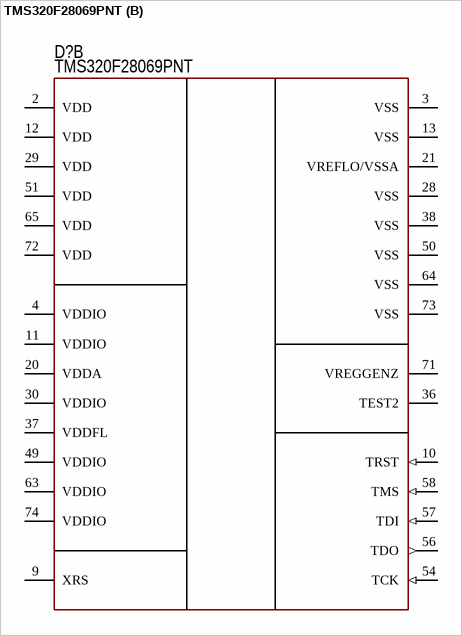
[diagram p9: symbol TMS320F28069PNT]

## TMS320F28069PNT
designator D?  PartNumber: TMS320F28069PNT
C28 Piccolo; Manufacturer: Texas Instruments; ValueManufacturerPartNumber: IC motor control, 32-Bit, C28 Piccolo, 90MHz, 256KB, 100KB, 1.71...3.6V, -40...+105°C, 64-TQFP; Supply: 1.71...3.6V; Speed: 90MHz; CoreSize: 32-Bit; MemoryROM: 256KB; MemoryRAM: 100KB; HelpURL: https://www.digikey.com/products/en?keywords=TMS320F28069PNT; Package: 64-TQFP; ComponentType: IC motor control; Temperature: -40...+105°C; CoreProcessor: C28 Piccolo
footprint 80-LQFP (pitch 0.5 mm)
part A pins: 1 GPIO23/MFSXA/SCIRXDB (io), 5 GPIO20/MDXA/COMP1OUT (io), 6 GPIO21/MDRA/COMP2OUT (io), 7 GPIO4/PWM3A (io), 8 GPIO5/PWM3B (io), 14 ADC6A/COMP3A (in), 15 ADC5A (in), 16 ADC4A/COMP2A (in), 17 ADC2A/COMP1A (in), 18 ADC1A (in), 19 ADC0A/VREFHI (in), 22 ADC0B (in), 23 ADC1B (in), 24 ADC2B/COMP1B (in), 25 ADC4B/COMP2B (in), 26 ADC5B (in), 27 ADC6B/COMP3B (in), 31 GPIO25/SPIMISOB (io), 32 GPIO31/CANTXA/PWM8A (io), 33 GPIO30/CANRXA/PWM7A (io), 34 GPIO29/SCITXDA/SCLA (io), 35 GPIO12/SCITXDA/SPIMOSIB (io), 39 GPIO9/PWM5B (io), 40 GPIO28/SCIRXDA/SDAA (io), 41 GPIO18/SPICLKA/SCITXDB/XCLKOUT (io), 42 GPIO17/SPIMISOA (io), 43 GPIO8/PWM5A (io), 44 GPIO16/SPIMOSIA (io), 45 GPIO7/PWM4B (io), 46 IO6/PWM4A/PWMSYNCI/PWMSYNCO (io), 47 X2 (out), 48 X1 (in), 52 GPIO19/XCLKIN/SPICSA/SCIRXDB (io), 53 GPIO39 (io), 55 GPIO34/COM2OUT/COMP3OUT (io), 59 GPIO11/PWM6B (io), 60 GPIO10/PWM6A (io), 61 GPIO27/SPICSB/USB0DM (io), 62 GPIO26/SPICLKB/USB0DP (io), 66 GPIO3/PWM2B/COMP2OUT (io), 67 GPIO2/PWM2A (io), 68 GPIO1/PWM1B/COMP1OUT (io), 69 GPIO0/PWM1A (io), 70 GPIO15/SCIRXDB/SPICSB (io), 75 GPIO13/SPIMISOB (io), 76 GPIO14/SCITXDB/SPICLKB (io), 77 GPIO24/SPIMOSIB (io), 78 GPIO22/MCLKXA/SCITXDB (io), 79 GPIO32/SDAA/PWMSYNC (io), 80 GPIO33/SCLA/PWMSYNCO (io)
part B pins: 2 VDD, 3 VSS (power), 4 VDDIO (power), 9 XRS, 10 TRST (in), 11 VDDIO (power), 12 VDD (power), 13 VSS (power), 20 VDDA (power), 21 VREFLO/VSSA (power), 28 VSS (power), 29 VDD (power), 30 VDDIO (power), 36 TEST2, 37 VDDFL (power), 38 VSS (power), 49 VDDIO (power), 50 VSS (power), 51 VDD (power), 54 TCK (in), 56 TDO (out), 57 TDI (in), 58 TMS (in), 63 VDDIO (power), 64 VSS (power), 65 VDD (power), 71 VREGGENZ, 72 VDD (power), 73 VSS (power), 74 VDDIO (power)